# Altium schematic symbol library AliPadash.SchLib: 1117 symbols (part 4 of 6)
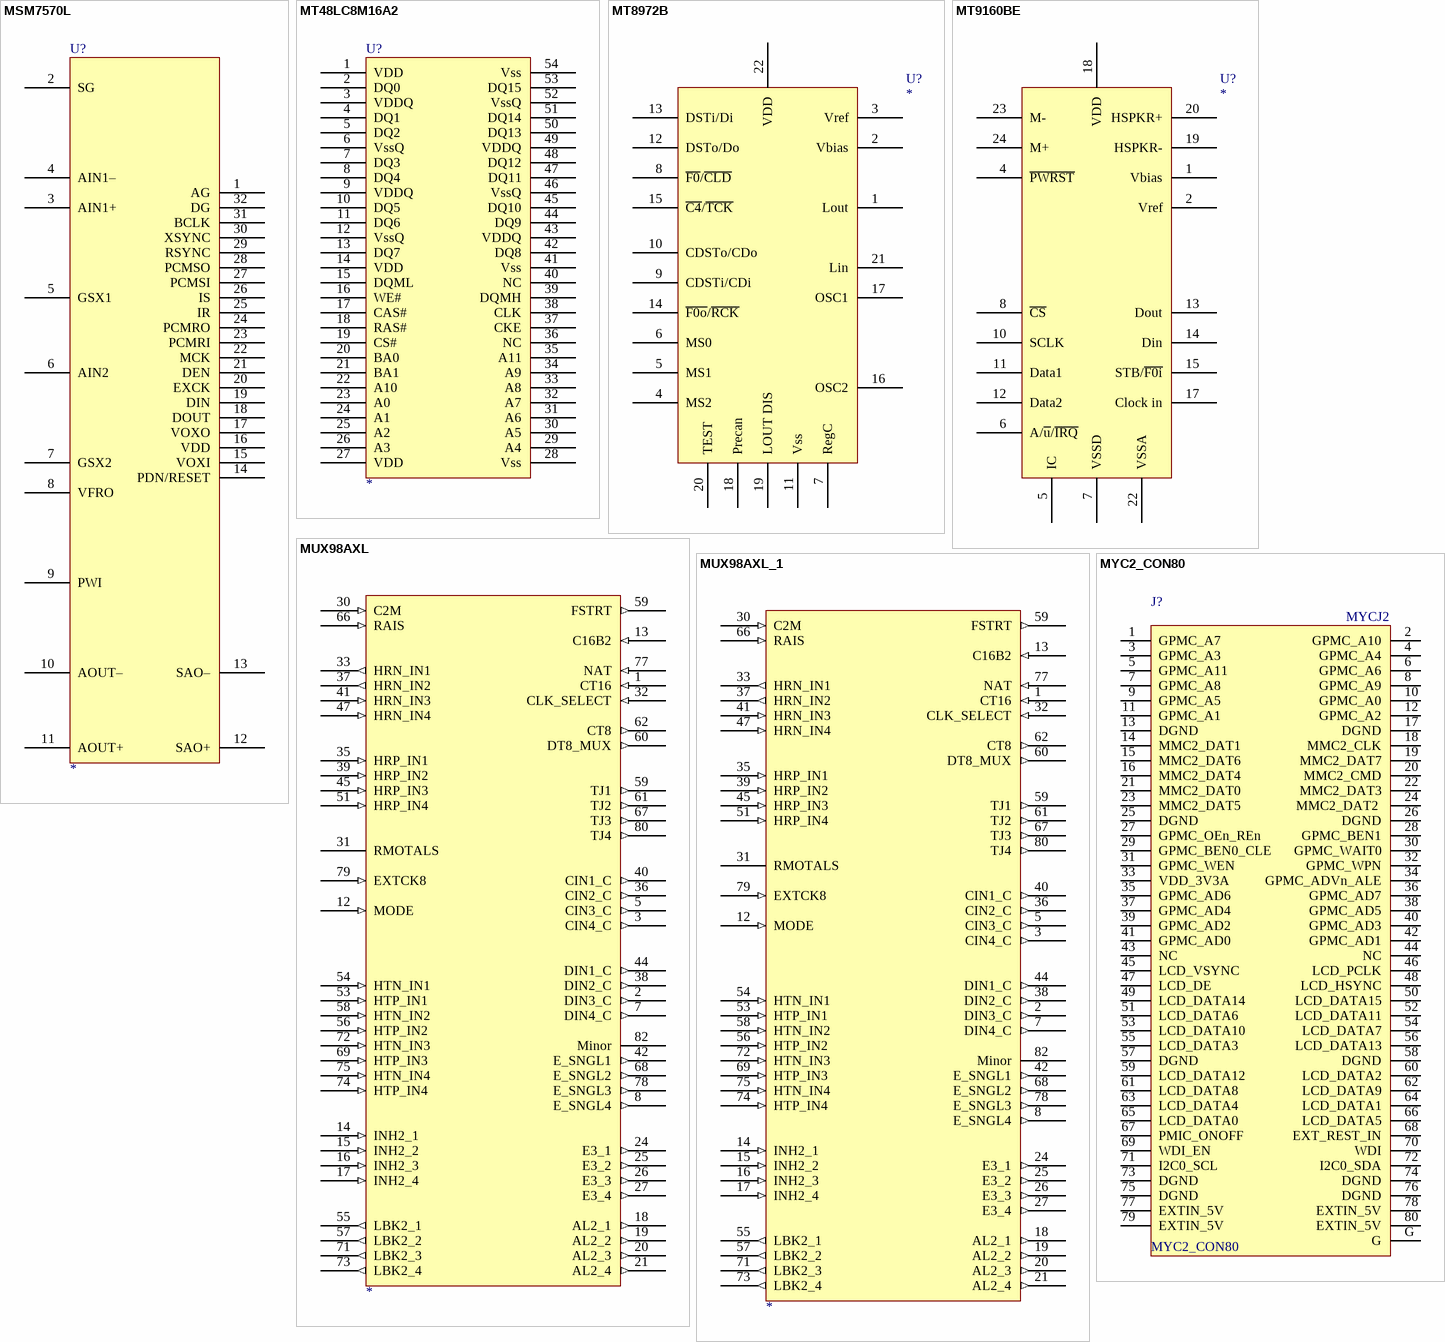
[diagram p86: symbols MSM7570L to MYC2_CON80]

## MT48LC8M16A2
designator U?
footprint TSOP54
pins: 1 VDD, 2 DQ0, 3 VDDQ, 4 DQ1, 5 DQ2, 6 VssQ, 7 DQ3, 8 DQ4, 9 VDDQ, 10 DQ5, 11 DQ6, 12 VssQ, 13 DQ7, 14 VDD, 15 DQML, 16 WE#, 17 CAS#, 18 RAS#, 19 CS#, 20 BA0, 21 BA1, 22 A10, 23 A0, 24 A1, 25 A2, 26 A3, 27 VDD, 28 Vss, 29 A4, 30 A5, 31 A6, 32 A7, 33 A8, 34 A9, 35 A11, 36 NC, 37 CKE, 38 CLK, 39 DQMH, 40 NC, 41 Vss, 42 DQ8, 43 VDDQ, 44 DQ9, 45 DQ10, 46 VssQ, 47 DQ11, 48 DQ12, 49 VDDQ, 50 DQ13, 51 DQ14, 52 VssQ, 53 DQ15, 54 Vss

## MT8972B
designator U?
footprint DIP22
pins: 1 Lout, 2 Vbias, 3 Vref, 4 MS2, 5 MS1, 6 MS0, 7 RegC, 8 ~{F0}/~{CLD}, 9 CDSTi/CDi, 10 CDSTo/CDo, 11 Vss (power), 12 DSTo/Do, 13 DSTi/Di, 14 ~{F0o}/~{RCK}, 15 ~{C4}/~{TCK}, 16 OSC2, 17 OSC1, 18 Precan, 19 LOUT DIS, 20 TEST, 21 Lin, 22 VDD (power)

## MT9160BE
designator U?
footprint DIP24
pins: 1 Vbias, 2 Vref, 4 ~{PWRST}, 5 IC (power), 6 A/~{u}/~{IRQ}, 7 VSSD (power), 8 ~{CS}, 10 SCLK, 11 Data1, 12 Data2, 13 Dout, 14 Din, 15 STB/~{F0i}, 17 Clock in, 18 VDD (power), 19 HSPKR-, 20 HSPKR+, 22 VSSA (power), 23 M-, 24 M+

## MUX98AXL
designator ?
pins: 1 CT16 (in), 2 DIN3_C (out), 3 CIN4_C (out), 5 CIN3_C (out), 6 GND (power) hidden to GND, 7 DIN4_C (out), 8 E_SNGL4 (out), 12 MODE (in), 13 C16B2 (in), 14 INH2_1 (in), 15 INH2_2 (in), 16 INH2_3 (in), 17 INH2_4 (in), 18 AL2_1 (out), 19 AL2_2 (out), 20 AL2_3 (out), 21 AL2_4 (out), 24 E3_1 (out), 25 E3_2 (out), 26 E3_3 (out), 27 E3_4 (out), 28 GND (power) hidden to GND, 30 C2M (in), 31 RMOTALS, 32 CLK_SELECT (in), 33 HRN_IN1 (out), 35 HRP_IN1 (in), 36 CIN2_C (out), 37 HRN_IN2 (out), 38 DIN2_C (out), 39 HRP_IN2 (in), 40 CIN1_C (out), 41 HRN_IN3 (in), 42 E_SNGL1 (out), 44 DIN1_C (out), 45 HRP_IN3 (in), 47 HRN_IN4 (in), 49 GND (power) hidden to GND, 51 HRP_IN4 (in), 53 HTP_IN1 (in), 54 HTN_IN1 (in), 55 LBK2_1 (out), 56 HTP_IN2 (in), 57 LBK2_2 (out), 58 HTN_IN2 (in), 59 TJ1 (out), 59 FSTRT (out), 60 DT8_MUX (out), 61 TJ2 (out), 62 CT8 (out), 66 RAIS (in), 67 TJ3 (out), 68 E_SNGL2 (out), 69 HTP_IN3 (in), 70 GND (power) hidden to GND, 71 LBK2_3 (out), 72 HTN_IN3 (in), 73 LBK2_4 (out), 74 HTP_IN4 (in), 75 HTN_IN4 (in), 77 NAT (in), 78 E_SNGL3 (out), 79 EXTCK8 (in), 80 TJ4 (out), 82 Minor

## MUX98AXL_1
designator ?
pins: 1 CT16 (in), 2 DIN3_C (out), 3 CIN4_C (out), 5 CIN3_C (out), 6 GND (power) hidden to GND, 7 DIN4_C (out), 8 E_SNGL4 (out), 12 MODE (in), 13 C16B2 (in), 14 INH2_1 (in), 15 INH2_2 (in), 16 INH2_3 (in), 17 INH2_4 (in), 18 AL2_1 (out), 19 AL2_2 (out), 20 AL2_3 (out), 21 AL2_4 (out), 24 E3_1 (out), 25 E3_2 (out), 26 E3_3 (out), 27 E3_4 (out), 28 GND (power) hidden to GND, 30 C2M (in), 31 RMOTALS, 32 CLK_SELECT (in), 33 HRN_IN1 (out), 35 HRP_IN1 (in), 36 CIN2_C (out), 37 HRN_IN2 (out), 38 DIN2_C (out), 39 HRP_IN2 (in), 40 CIN1_C (out), 41 HRN_IN3 (in), 42 E_SNGL1 (out), 44 DIN1_C (out), 45 HRP_IN3 (in), 47 HRN_IN4 (in), 49 GND (power) hidden to GND, 51 HRP_IN4 (in), 53 HTP_IN1 (in), 54 HTN_IN1 (in), 55 LBK2_1 (out), 56 HTP_IN2 (in), 57 LBK2_2 (out), 58 HTN_IN2 (in), 59 TJ1 (out), 59 FSTRT (out), 60 DT8_MUX (out), 61 TJ2 (out), 62 CT8 (out), 66 RAIS (in), 67 TJ3 (out), 68 E_SNGL2 (out), 69 HTP_IN3 (in), 70 GND (power) hidden to GND, 71 LBK2_3 (out), 72 HTN_IN3 (in), 73 LBK2_4 (out), 74 HTP_IN4 (in), 75 HTN_IN4 (in), 77 NAT (in), 78 E_SNGL3 (out), 79 EXTCK8 (in), 80 TJ4 (out), 82 Minor

## MYC2_CON80
designator J?
footprint BTB2X40F (SON, 80-Leads, Body 36/20x6/00mm, Pitch 0/80mm, IPC Medium Density)
pins: 1 GPMC_A7, 2 GPMC_A10, 3 GPMC_A3, 4 GPMC_A4, 5 GPMC_A11, 6 GPMC_A6, 7 GPMC_A8, 8 GPMC_A9, 9 GPMC_A5, 10 GPMC_A0, 11 GPMC_A1, 12 GPMC_A2, 13 DGND, 14 MMC2_DAT1, 15 MMC2_DAT6, 16 MMC2_DAT4, 17 DGND, 18 MMC2_CLK, 19 MMC2_DAT7, 20 MMC2_CMD, 21 MMC2_DAT0, 22 MMC2_DAT3, 23 MMC2_DAT5 , 24 MMC2_DAT2 , 25 DGND, 26 DGND, 27 GPMC_OEn_REn, 28 GPMC_BEN1, 29 GPMC_BEN0_CLE, 30 GPMC_WAIT0, 31 GPMC_WEN, 32 GPMC_WPN, 33 VDD_3V3A, 34 GPMC_ADVn_ALE, 35 GPMC_AD6, 36 GPMC_AD7, 37 GPMC_AD4, 38 GPMC_AD5, 39 GPMC_AD2, 40 GPMC_AD3, 41 GPMC_AD0, 42 GPMC_AD1, 43 NC, 44 NC, 45 LCD_VSYNC, 46 LCD_PCLK, 47 LCD_DE, 48 LCD_HSYNC, 49 LCD_DATA14, 50 LCD_DATA15, 51 LCD_DATA6, 52 LCD_DATA11, 53 LCD_DATA10, 54 LCD_DATA7, 55 LCD_DATA3, 56 LCD_DATA13, 57 DGND, 58 DGND, 59 LCD_DATA12, 60 LCD_DATA2, 61 LCD_DATA8, 62 LCD_DATA9, 63 LCD_DATA4, 64 LCD_DATA1, 65 LCD_DATA0, 66 LCD_DATA5, 67 PMIC_ONOFF, 68 EXT_REST_IN, 69 WDI_EN, 70 WDI, 71 I2C0_SCL, 72 I2C0_SDA, 73 DGND, 74 DGND, 75 DGND, 76  DGND, 77 EXTIN_5V, 78 EXTIN_5V, 79 EXTIN_5V, 80 EXTIN_5V, G
text: MYCJ2

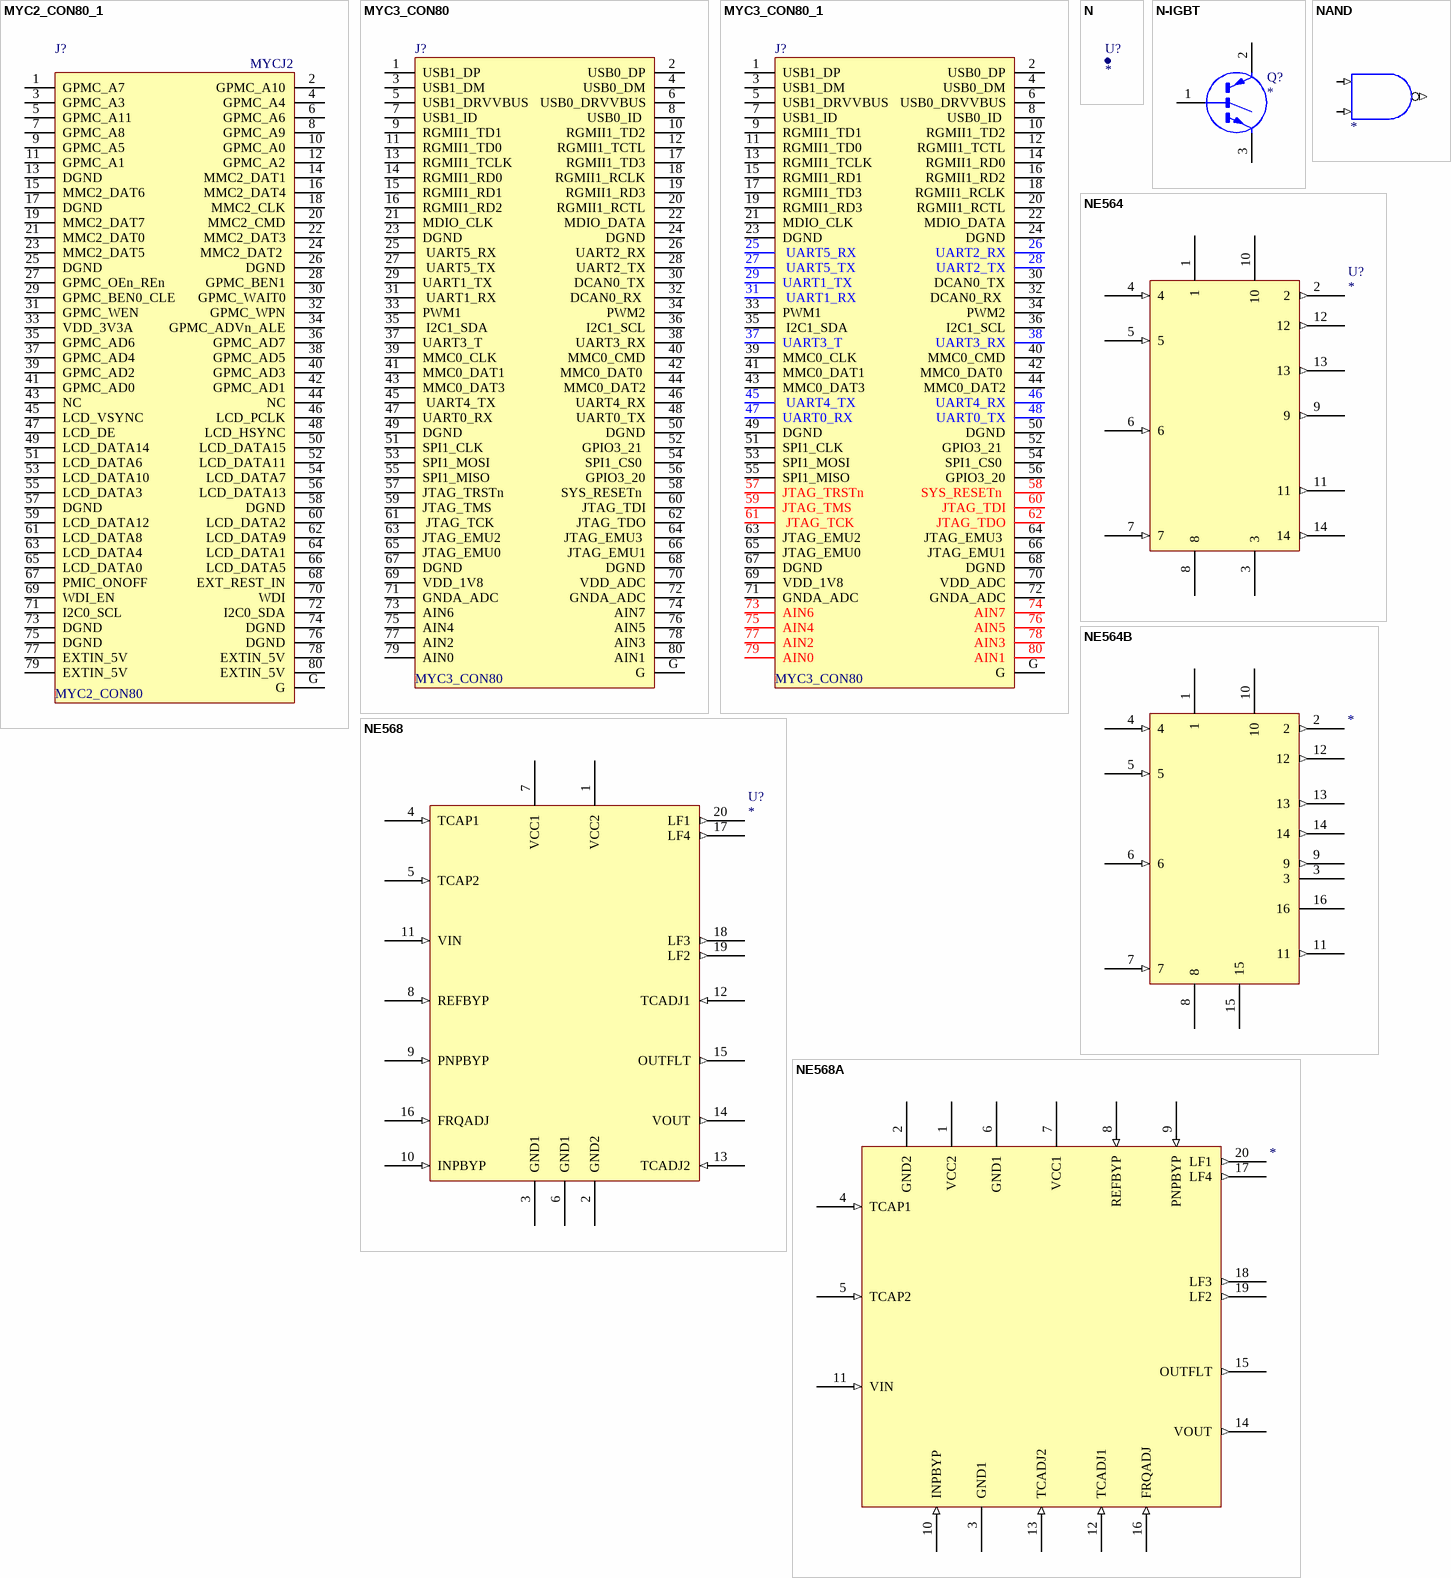
[diagram p44: symbols MYC2_CON80_1 to NE568A]

## MYC2_CON80_1
designator J?, comment MYC2_CON80
footprint BTB2X40F (SON, 80-Leads, Body 36/20x6/00mm, Pitch 0/80mm, IPC Medium Density)
pins: 1 GPMC_A7, 2 GPMC_A10, 3 GPMC_A3, 4 GPMC_A4, 5 GPMC_A11, 6 GPMC_A6, 7 GPMC_A8, 8 GPMC_A9, 9 GPMC_A5, 10 GPMC_A0, 11 GPMC_A1, 12 GPMC_A2, 13 DGND, 14 MMC2_DAT1, 15 MMC2_DAT6, 16 MMC2_DAT4, 17 DGND, 18 MMC2_CLK, 19 MMC2_DAT7, 20 MMC2_CMD, 21 MMC2_DAT0, 22 MMC2_DAT3, 23 MMC2_DAT5 , 24 MMC2_DAT2 , 25 DGND, 26 DGND, 27 GPMC_OEn_REn, 28 GPMC_BEN1, 29 GPMC_BEN0_CLE, 30 GPMC_WAIT0, 31 GPMC_WEN, 32 GPMC_WPN, 33 VDD_3V3A, 34 GPMC_ADVn_ALE, 35 GPMC_AD6, 36 GPMC_AD7, 37 GPMC_AD4, 38 GPMC_AD5, 39 GPMC_AD2, 40 GPMC_AD3, 41 GPMC_AD0, 42 GPMC_AD1, 43 NC, 44 NC, 45 LCD_VSYNC, 46 LCD_PCLK, 47 LCD_DE, 48 LCD_HSYNC, 49 LCD_DATA14, 50 LCD_DATA15, 51 LCD_DATA6, 52 LCD_DATA11, 53 LCD_DATA10, 54 LCD_DATA7, 55 LCD_DATA3, 56 LCD_DATA13, 57 DGND, 58 DGND, 59 LCD_DATA12, 60 LCD_DATA2, 61 LCD_DATA8, 62 LCD_DATA9, 63 LCD_DATA4, 64 LCD_DATA1, 65 LCD_DATA0, 66 LCD_DATA5, 67 PMIC_ONOFF, 68 EXT_REST_IN, 69 WDI_EN, 70 WDI, 71 I2C0_SCL, 72 I2C0_SDA, 73 DGND, 74 DGND, 75 DGND, 76  DGND, 77 EXTIN_5V, 78 EXTIN_5V, 79 EXTIN_5V, 80 EXTIN_5V, G
text: MYCJ2

## MYC3_CON80
designator J?
footprint BTB2X40 (SON, 80-Leads, Body 36/20x6/00mm, Pitch 0/80mm, IPC Medium Density)
footprint BTB2X40F (SON, 80-Leads, Body 36/20x6/00mm, Pitch 0/80mm, IPC Medium Density)
pins: 1 USB1_DP, 2 USB0_DP, 3 USB1_DM, 4 USB0_DM, 5 USB1_DRVVBUS, 6 USB0_DRVVBUS, 7 USB1_ID, 8 USB0_ID , 9 RGMII1_TD1, 10 RGMII1_TD2, 11 RGMII1_TD0, 12 RGMII1_TCTL, 13 RGMII1_TCLK, 14 RGMII1_RD0, 15 RGMII1_RD1, 16 RGMII1_RD2, 17 RGMII1_TD3, 18 RGMII1_RCLK, 19 RGMII1_RD3, 20 RGMII1_RCTL, 21 MDIO_CLK, 22 MDIO_DATA, 23 DGND, 24 DGND, 25  UART5_RX, 26 UART2_RX, 27  UART5_TX, 28 UART2_TX, 29 UART1_TX, 30 DCAN0_TX, 31  UART1_RX, 32 DCAN0_RX , 33 PWM1, 34 PWM2, 35  I2C1_SDA, 36 I2C1_SCL, 37 UART3_T, 38 UART3_RX, 39 MMC0_CLK, 40 MMC0_CMD, 41 MMC0_DAT1, 42 MMC0_DAT0 , 43 MMC0_DAT3, 44 MMC0_DAT2, 45  UART4_TX, 46 UART4_RX, 47 UART0_RX, 48 UART0_TX, 49 DGND, 50 DGND, 51 SPI1_CLK, 52 GPIO3_21 , 53 SPI1_MOSI, 54 SPI1_CS0 , 55 SPI1_MISO, 56 GPIO3_20, 57 JTAG_TRSTn, 58 SYS_RESETn , 59 JTAG_TMS, 60 JTAG_TDI, 61  JTAG_TCK, 62 JTAG_TDO, 63 JTAG_EMU2, 64 JTAG_EMU3 , 65 JTAG_EMU0, 66 JTAG_EMU1, 67 DGND, 68 DGND, 69 VDD_1V8, 70 VDD_ADC, 71 GNDA_ADC, 72 GNDA_ADC, 73 AIN6, 74 AIN7, 75 AIN4, 76 AIN5, 77 AIN2, 78 AIN3, 79 AIN0, 80 AIN1, G

## MYC3_CON80_1
designator J?, comment MYC3_CON80
footprint BTB2X40 (SON, 80-Leads, Body 36/20x6/00mm, Pitch 0/80mm, IPC Medium Density)
footprint BTB2X40F_1 (SON, 80-Leads, Body 36/20x6/00mm, Pitch 0/80mm, IPC Medium Density)
pins: 1 USB1_DP, 2 USB0_DP, 3 USB1_DM, 4 USB0_DM, 5 USB1_DRVVBUS, 6 USB0_DRVVBUS, 7 USB1_ID, 8 USB0_ID , 9 RGMII1_TD1, 10 RGMII1_TD2, 11 RGMII1_TD0, 12 RGMII1_TCTL, 13 RGMII1_TCLK, 14 RGMII1_RD0, 15 RGMII1_RD1, 16 RGMII1_RD2, 17 RGMII1_TD3, 18 RGMII1_RCLK, 19 RGMII1_RD3, 20 RGMII1_RCTL, 21 MDIO_CLK, 22 MDIO_DATA, 23 DGND, 24 DGND, 25  UART5_RX, 26 UART2_RX, 27  UART5_TX, 28 UART2_TX, 29 UART1_TX, 30 DCAN0_TX, 31  UART1_RX, 32 DCAN0_RX , 33 PWM1, 34 PWM2, 35  I2C1_SDA, 36 I2C1_SCL, 37 UART3_T, 38 UART3_RX, 39 MMC0_CLK, 40 MMC0_CMD, 41 MMC0_DAT1, 42 MMC0_DAT0 , 43 MMC0_DAT3, 44 MMC0_DAT2, 45  UART4_TX, 46 UART4_RX, 47 UART0_RX, 48 UART0_TX, 49 DGND, 50 DGND, 51 SPI1_CLK, 52 GPIO3_21 , 53 SPI1_MOSI, 54 SPI1_CS0 , 55 SPI1_MISO, 56 GPIO3_20, 57 JTAG_TRSTn, 58 SYS_RESETn , 59 JTAG_TMS, 60 JTAG_TDI, 61  JTAG_TCK, 62 JTAG_TDO, 63 JTAG_EMU2, 64 JTAG_EMU3 , 65 JTAG_EMU0, 66 JTAG_EMU1, 67 DGND, 68 DGND, 69 VDD_1V8, 70 VDD_ADC, 71 GNDA_ADC, 72 GNDA_ADC, 73 AIN6, 74 AIN7, 75 AIN4, 76 AIN5, 77 AIN2, 78 AIN3, 79 AIN0, 80 AIN1, G

## N
designator U?

## N-IGBT
designator Q?
footprint SMD-23
footprint TO-92
footprint TO-18B
footprint SMD-24
pins: 1 B, 2 E, 3 E

## NAND
designator ?
pins: 1 (in), 2 (in), 3 (out)

## NE564
designator U?
pins: 1, 2 (out), 3, 4 (in), 5 (in), 6 (in), 7 (in), 8, 9 (out), 10, 11 (out), 12 (out), 13 (out), 14 (out)

## NE564B
designator ?
pins: 1, 2 (out), 3, 4 (in), 5 (in), 6 (in), 7 (in), 8, 9 (out), 10, 11 (out), 12 (out), 13 (out), 14 (out), 15, 16

## NE568
designator U?
pins: 1 VCC2, 2 GND2, 3 GND1, 4 TCAP1 (in), 5 TCAP2 (in), 6 GND1, 7 VCC1, 8 REFBYP (in), 9 PNPBYP (in), 10 INPBYP (in), 11 VIN (in), 12 TCADJ1 (in), 13 TCADJ2 (in), 14 VOUT (out), 15 OUTFLT (out), 16 FRQADJ (in), 17 LF4 (out), 18 LF3 (out), 19 LF2 (out), 20 LF1 (out)

## NE568A
designator ?
pins: 1 VCC2, 2 GND2, 3 GND1, 4 TCAP1 (in), 5 TCAP2 (in), 6 GND1, 7 VCC1, 8 REFBYP (in), 9 PNPBYP (in), 10 INPBYP (in), 11 VIN (in), 12 TCADJ1 (in), 13 TCADJ2 (in), 14 VOUT (out), 15 OUTFLT (out), 16 FRQADJ (in), 17 LF4 (out), 18 LF3 (out), 19 LF2 (out), 20 LF1 (out)

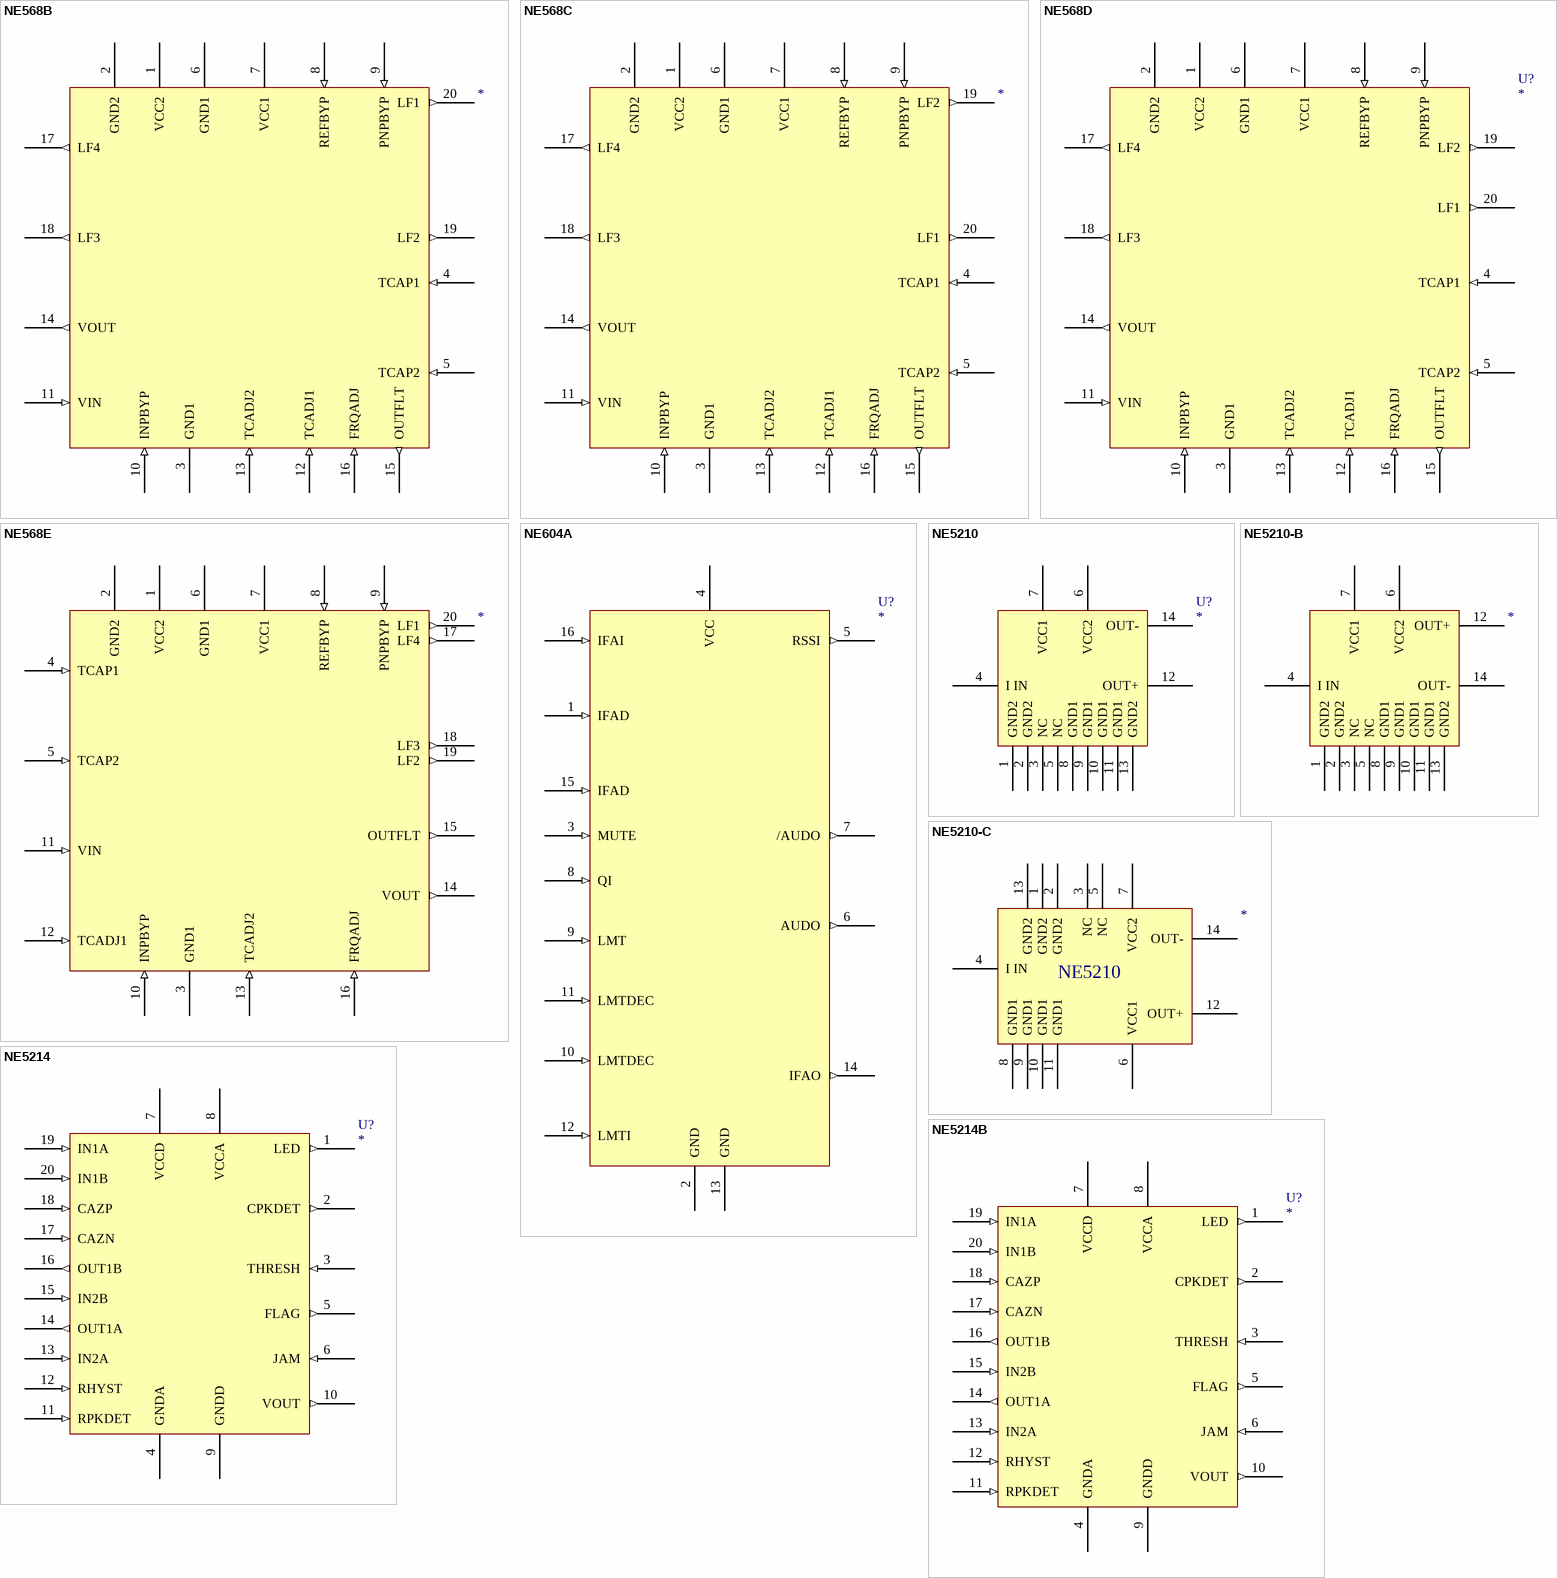
[diagram p45: symbols NE568B to NE5214B]

## NE568B
designator ?
pins: 1 VCC2, 2 GND2, 3 GND1, 4 TCAP1 (in), 5 TCAP2 (in), 6 GND1, 7 VCC1, 8 REFBYP (in), 9 PNPBYP (in), 10 INPBYP (in), 11 VIN (in), 12 TCADJ1 (in), 13 TCADJ2 (in), 14 VOUT (out), 15 OUTFLT (out), 16 FRQADJ (in), 17 LF4 (out), 18 LF3 (out), 19 LF2 (out), 20 LF1 (out)

## NE568C
designator ?
pins: 1 VCC2, 2 GND2, 3 GND1, 4 TCAP1 (in), 5 TCAP2 (in), 6 GND1, 7 VCC1, 8 REFBYP (in), 9 PNPBYP (in), 10 INPBYP (in), 11 VIN (in), 12 TCADJ1 (in), 13 TCADJ2 (in), 14 VOUT (out), 15 OUTFLT (out), 16 FRQADJ (in), 17 LF4 (out), 18 LF3 (out), 19 LF2 (out), 20 LF1 (out)

## NE568D
designator U?
footprint DIP20
pins: 1 VCC2, 2 GND2, 3 GND1, 4 TCAP1 (in), 5 TCAP2 (in), 6 GND1, 7 VCC1, 8 REFBYP (in), 9 PNPBYP (in), 10 INPBYP (in), 11 VIN (in), 12 TCADJ1 (in), 13 TCADJ2 (in), 14 VOUT (out), 15 OUTFLT (out), 16 FRQADJ (in), 17 LF4 (out), 18 LF3 (out), 19 LF2 (out), 20 LF1 (out)

## NE568E
designator ?
pins: 1 VCC2, 2 GND2, 3 GND1, 4 TCAP1 (in), 5 TCAP2 (in), 6 GND1, 7 VCC1, 8 REFBYP (in), 9 PNPBYP (in), 10 INPBYP (in), 11 VIN (in), 12 TCADJ1 (in), 13 TCADJ2 (in), 14 VOUT (out), 15 OUTFLT (out), 16 FRQADJ (in), 17 LF4 (out), 18 LF3 (out), 19 LF2 (out), 20 LF1 (out)

## NE604A
designator U?
pins: 1 IFAD (in), 2 GND, 3 MUTE (in), 4 VCC, 5 RSSI (out), 6 AUDO (out), 7 /AUDO (out), 8 QI (in), 9 LMT (in), 10 LMTDEC (in), 11 LMTDEC (in), 12 LMTI (in), 13 GND, 14 IFAO (out), 15 IFAD (in), 16 IFAI (in)

## NE5210
designator U?
pins: 1 GND2, 2 GND2, 3 NC, 4 I IN, 5 NC, 6 VCC2, 7 VCC1, 8 GND1, 9 GND1, 10 GND1, 11 GND1, 12 OUT+, 13 GND2, 14 OUT-

## NE5210-B
designator ?
pins: 1 GND2, 2 GND2, 3 NC, 4 I IN, 5 NC, 6 VCC2, 7 VCC1, 8 GND1, 9 GND1, 10 GND1, 11 GND1, 12 OUT+, 13 GND2, 14 OUT-

## NE5210-C
designator ?
pins: 1 GND2, 2 GND2, 3 NC, 4 I IN, 5 NC, 6 VCC1, 7 VCC2, 8 GND1, 9 GND1, 10 GND1, 11 GND1, 12 OUT+, 13 GND2, 14 OUT-
text: NE5210

## NE5214
designator U?
pins: 1 LED (out), 2 CPKDET (out), 3 THRESH (in), 4 GNDA, 5 FLAG (out), 6 JAM (in), 7 VCCD, 8 VCCA, 9 GNDD, 10 VOUT (out), 11 RPKDET (in), 12 RHYST (in), 13 IN2A (in), 14 OUT1A (out), 15 IN2B (in), 16 OUT1B (out), 17 CAZN (in), 18 CAZP (in), 19 IN1A (in), 20 IN1B (in)

## NE5214B
designator U?
pins: 1 LED (out), 2 CPKDET (out), 3 THRESH (in), 4 GNDA, 5 FLAG (out), 6 JAM (in), 7 VCCD, 8 VCCA, 9 GNDD, 10 VOUT (out), 11 RPKDET (in), 12 RHYST (in), 13 IN2A (in), 14 OUT1A (out), 15 IN2B (in), 16 OUT1B (out), 17 CAZN (in), 18 CAZP (in), 19 IN1A (in), 20 IN1B (in)

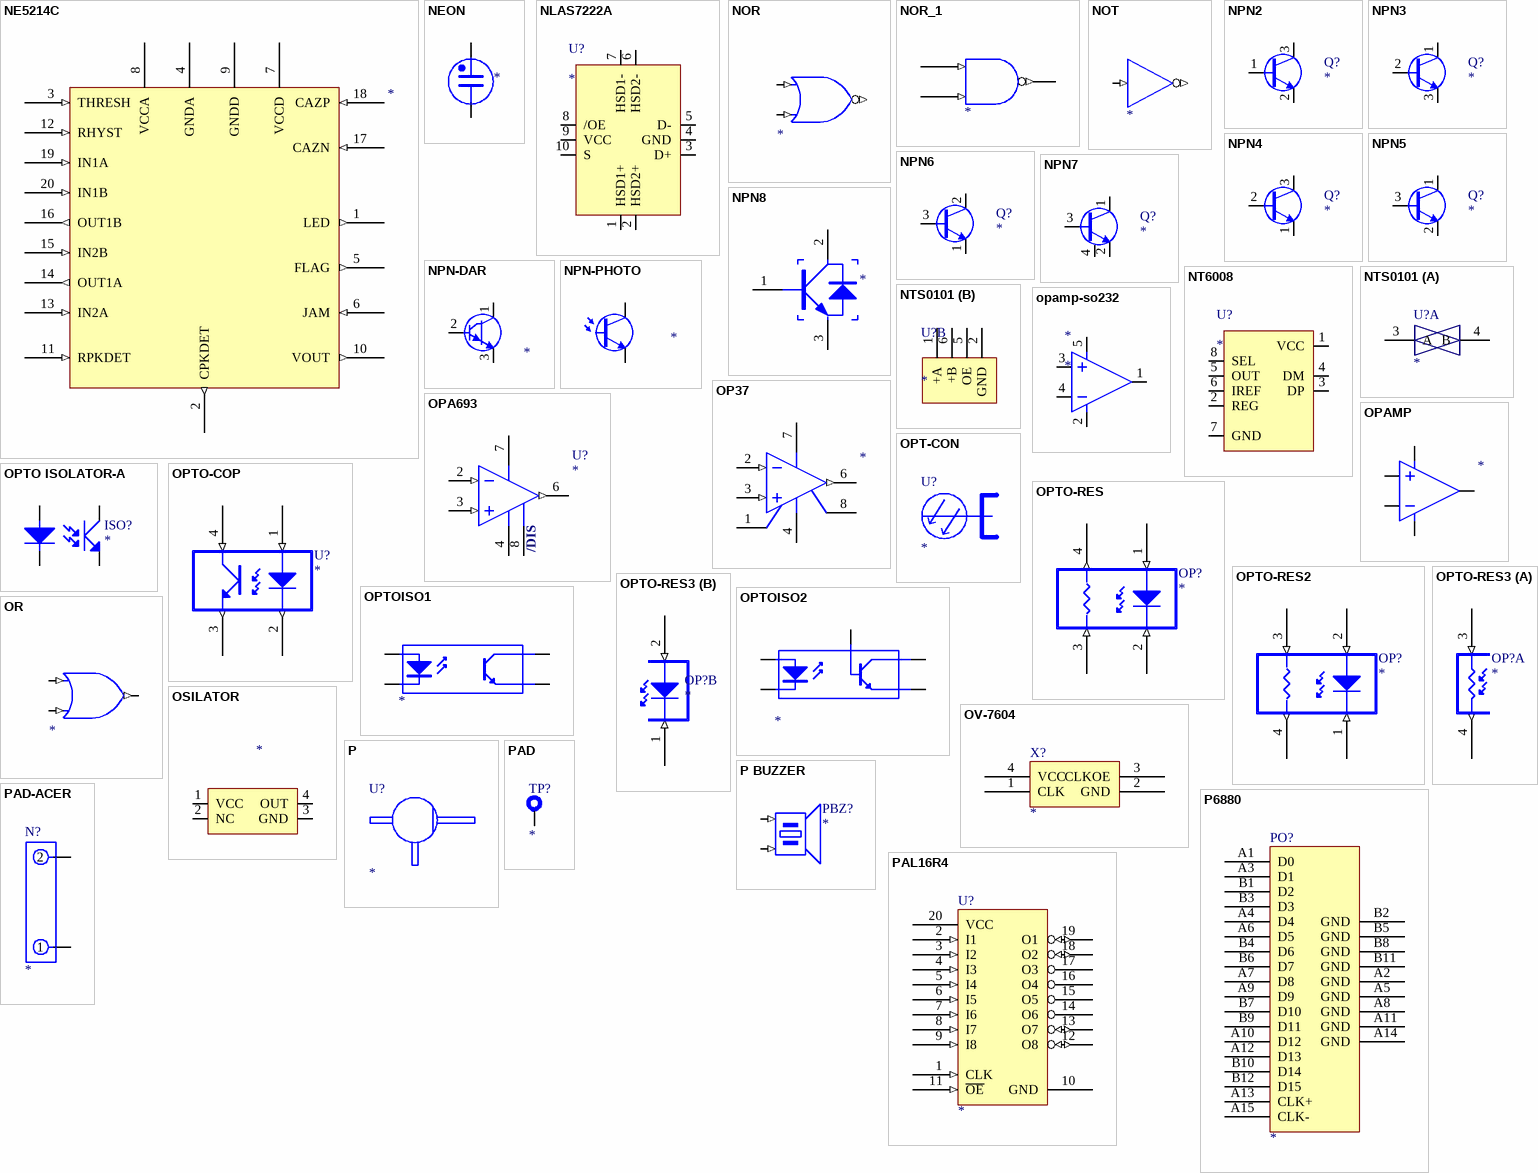
[diagram p46: symbols NE5214C to PAL16R4]

## NE5214C
designator ?
pins: 1 LED (out), 2 CPKDET (out), 3 THRESH (in), 4 GNDA, 5 FLAG (out), 6 JAM (in), 7 VCCD, 8 VCCA, 9 GNDD, 10 VOUT (out), 11 RPKDET (in), 12 RHYST (in), 13 IN2A (in), 14 OUT1A (out), 15 IN2B (in), 16 OUT1B (out), 17 CAZN (in), 18 CAZP (in), 19 IN1A (in), 20 IN1B (in)

## NEON
designator ?
pins: 1, 2

## NLAS7222A
designator U?
footprint WQFN10
pins: 1 HSD1+, 2 HSD2+, 3 D+, 4 GND, 5 D-, 6 HSD2-, 7 HSD1-, 8 /OE, 9 VCC, 10 S

## NOR
designator ?
pins: 1 (in), 2 (in), 3 (out)

## NOR_1
designator ?
pins: ?1 I0 (in), ?2 I1 (in), ?3 O (out)

## NOT
designator ?
pins: 1 (in), 2 (out)

## NPN2
designator Q?
footprint SMD-23
footprint TO-92
footprint TO-220
pins: 1 B, 2 E, 3 C

## NPN3
designator Q?
footprint SMD-23
footprint TO-92
footprint TO-220
pins: 1 C, 2 B, 3 E

## NPN4
designator Q?
footprint SMD-23
pins: 1 E, 2 B, 3 C

## NPN5
designator Q?
pins: 1 C, 2 E, 3 B

## NPN6
designator Q?
pins: 1 E, 2 C, 3 B

## NPN7
designator Q?
pins: 1 C, 2 E, 3 B, 4 E

## NPN8
designator ?
pins: 1 B, 2 C, 3 E

## NPN-DAR
designator ?
pins: 1 C, 2 B, 3 E

## NPN-PHOTO
designator ?
pins: C, E

## NT6008
designator U?
pins: 1 VCC, 2 REG, 3 DP, 4 DM, 5 OUT, 6 IREF, 7 GND, 8 SEL

## NTS0101
designator U?
footprint SOT363
part A pins: 3 A, 4 B
part B pins: 1 +A, 2 GND, 5 OE, 6 +B

## OP37
designator ?
pins: 1 TRIM, 2 -IN (in), 3 +IN (in), 4 V- (power), 6 OUT (out), 7 V+ (power), 8 TRIM

## OPA693
designator U?
pins: 2 -IN (in), 3 +IN (in), 4 V- (power), 6 OUT (out), 7 V+ (power), 8 /DIS

## OPAMP
designator ?
pins: 1, 2, 3, 4, 5

## opamp-so232
designator *
pins: 1, 2, 3 2, 4, 5

## OPT-CON
designator U?

## OPTO ISOLATOR-A
designator ISO?
pins: ANODE, CATHODE, COLLECTOR, EMITTER

## OPTO-COP
designator U?
pins: 1 A (in), 2 C (out), 3 E (out), 4 CL (in)

## OPTO-RES
designator OP?
footprint OPR
pins: 1 A (in), 2 C (in), 3 E (in), 4 CL (out)

## OPTO-RES2
designator OP?
footprint OPR
pins: 1 A (in), 2 C (in), 3 E (in), 4 CL (out)

## OPTO-RES3
designator OP?
footprint OPR
part A pins: 3 E (in), 4 CL (out)
part B pins: 1 A (in), 2 C (in)

## OPTOISO1
designator ?
pins: A, C, E, K

## OPTOISO2
designator ?
pins: A, B, C, E, K

## OR
designator ?
pins: 1 (in), 2 (in), 3 (out)

## OSILATOR
designator ?
footprint OSILATOR
pins: 1 VCC, 2 NC, 3 GND, 4 OUT

## OV-7604
designator X?
footprint OV7604
pins: 1 CLK, 2 GND, 3 CLKOE, 4 VCC

## P
designator U?

## P6880
designator PO?
PROB FOR P6860 AND P6880 LOGIC ANALYZER
footprint P6860
pins: A1 D0, A2 GND, A3 D1, A4 D4, A5 GND, A6 D5, A7 D8, A8 GND, A9 D9, A10 D12, A11 GND, A12 D13, A13 CLK+, A14 GND, A15 CLK-, B1 D2, B2 GND, B3 D3, B4 D6, B5 GND, B6 D7, B7 D10, B8 GND, B9 D11, B10 D14, B11 GND, B12 D15

## P BUZZER
designator PBZ?
footprint BUZER2
pins: 1 (in), 2 (in)

## PAD
designator TP?
footprint TP1
pins: 1

## PAD-ACER
designator N?
pins: 1, 2

## PAL16R4
designator U?
footprint DIP20
pins: 1 CLK (in), 2 I1 (in), 3 I2 (in), 4 I3 (in), 5 I4 (in), 6 I5 (in), 7 I6 (in), 8 I7 (in), 9 I8 (in), 10 GND (power), 11 ~{OE} (in), 12 O8 (io), 13 O7 (io), 14 O6 (hiz), 15 O5 (hiz), 16 O4 (hiz), 17 O3 (hiz), 18 O2 (io), 19 O1 (io), 20 VCC (power)

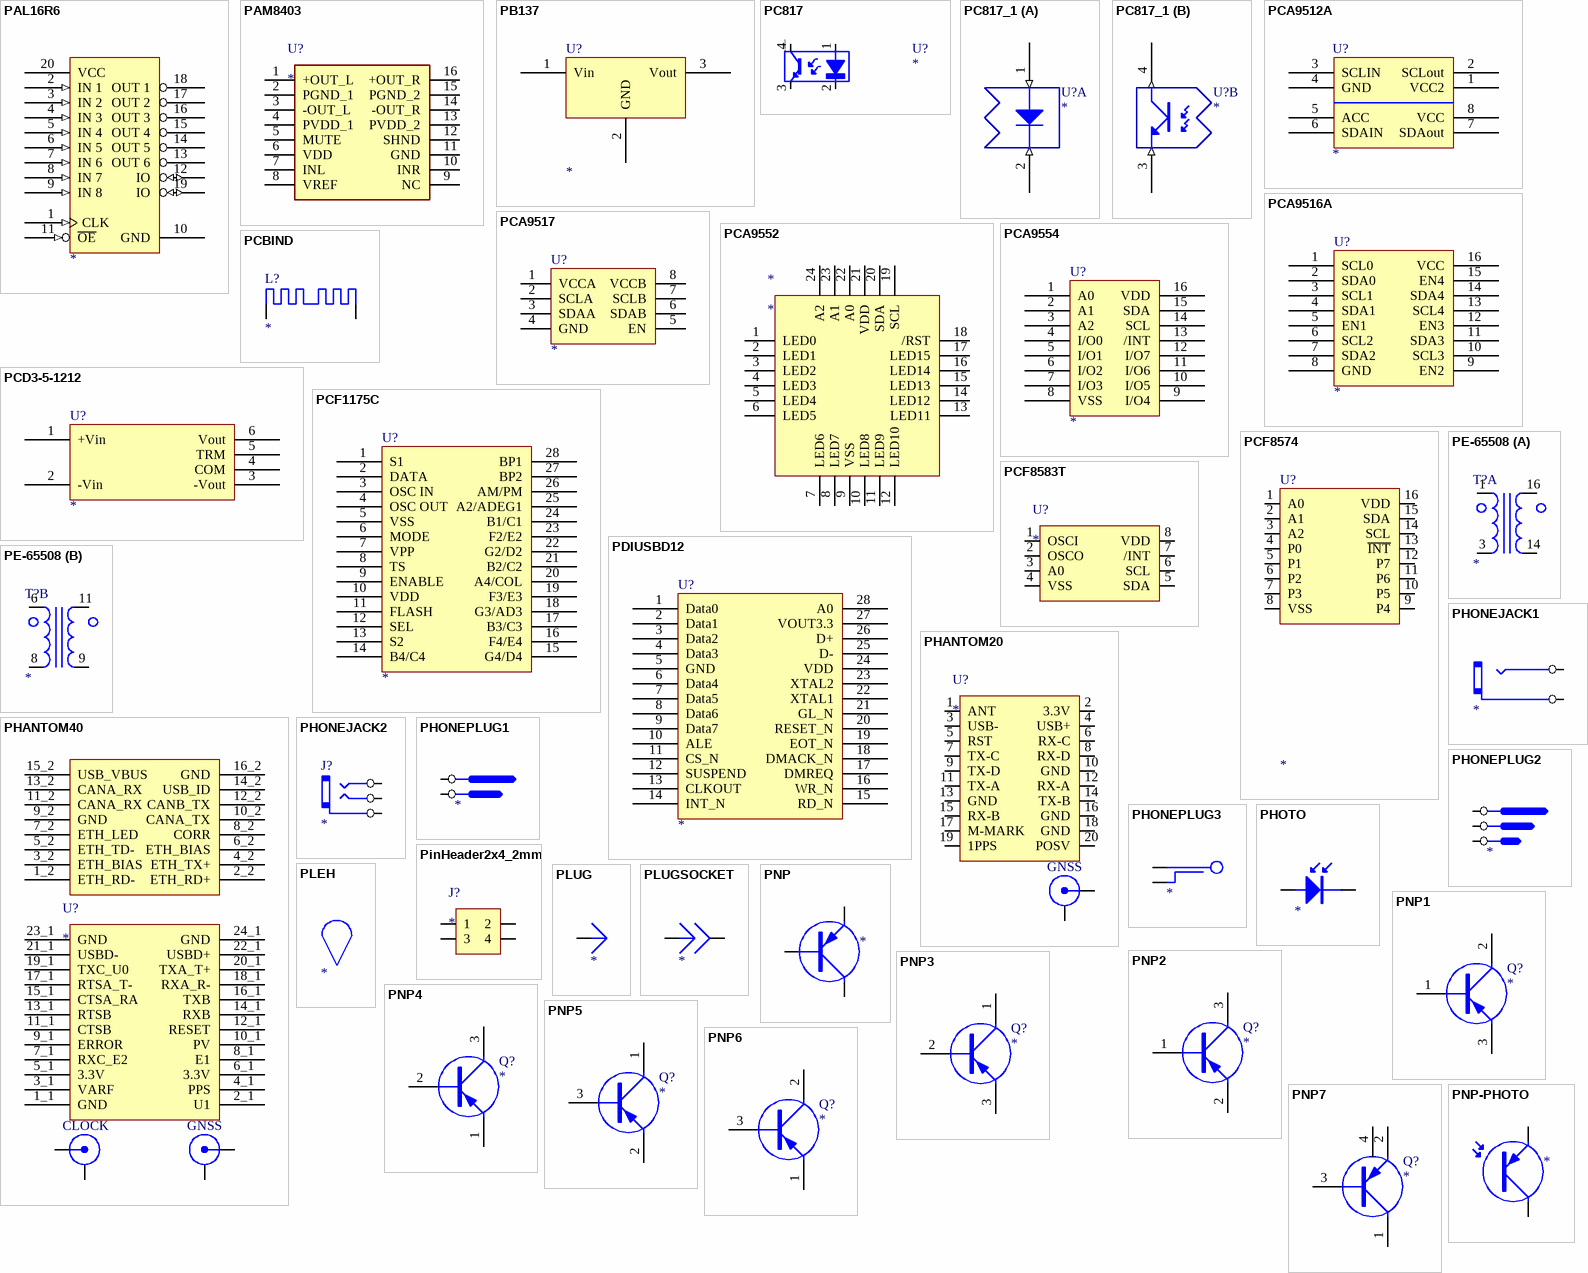
[diagram p47: symbols PAL16R6 to PNP-PHOTO]

## PAL16R6
designator ?
pins: 1 CLK (in), 2 IN 1 (in), 3 IN 2 (in), 4 IN 3 (in), 5 IN 4 (in), 6 IN 5 (in), 7 IN 6 (in), 8 IN 7 (in), 9 IN 8 (in), 10 GND (power), 11 ~{OE} (in), 12 IO (io), 13 OUT 6 (hiz), 14 OUT 5 (hiz), 15 OUT 4 (hiz), 16 OUT 3 (hiz), 17 OUT 2 (hiz), 18 OUT 1 (hiz), 19 IO (io), 20 VCC (power)

## PAM8403
designator U?
footprint SO-16
pins: 1 +OUT_L, 2 PGND_1, 3 -OUT_L, 4 PVDD_1, 5 MUTE, 6 VDD, 7 INL, 8 VREF, 9 NC, 10 INR, 11 GND, 12 SHND, 13 PVDD_2, 14 -OUT_R, 15 PGND_2, 16 +OUT_R

## PB137
designator U?
footprint TO-220
pins: 1 Vin, 2 GND, 3 Vout

## PC817
designator U?
footprint DIP4
pins: 1 A, 2 C, 3 E, 4 CL
text: @DesignPCB

## PC817_1
designator U?
footprint DIP4
part A pins: 1 A (in), 2 C (in)
part B pins: 3 E (in), 4 CL (out)

## PCA9512A
designator U?
footprint SO-8
pins: 1 VCC2, 2 SCLout, 3 SCLIN, 4 GND, 5 ACC, 6 SDAIN, 7 SDAout, 8 VCC

## PCA9516A
designator U?
footprint SO-16
pins: 1 SCL0, 2 SDA0, 3 SCL1, 4 SDA1, 5 EN1, 6 SCL2, 7 SDA2, 8 GND, 9 EN2, 10 SCL3, 11 SDA3, 12 EN3, 13 SCL4, 14 SDA4, 15 EN4, 16 VCC

## PCA9517
designator U?
footprint SO-8
pins: 1 VCCA, 2 SCLA, 3 SDAA, 4 GND, 5 EN, 6 SDAB, 7 SCLB, 8 VCCB

## PCA9552
designator *
footprint HVQFN24 (PQFN, 24-Leads, Body 4.00x4.00mm, Pitch 0.50mm, Thermal Pad 2.10x2.10mm, IPC Medium Density)
pins: 1 LED0, 2 LED1, 3 LED2, 4 LED3, 5 LED4, 6 LED5, 7 LED6, 8 LED7, 9 VSS, 10 LED8, 11 LED9, 12 LED10, 13 LED11, 14 LED12, 15 LED13, 16 LED14, 17 LED15, 18 /RST, 19 SCL, 20 SDA, 21 VDD, 22 A0, 23 A1, 24 A2

## PCA9554
designator U?
footprint TSSOP16
pins: 1 A0, 2 A1, 3 A2, 4 I/O0, 5 I/O1, 6 I/O2, 7 I/O3, 8 VSS, 9 I/O4, 10 I/O5, 11 I/O6, 12 I/O7, 13 /INT, 14 SCL, 15 SDA, 16 VDD

## PCBIND
designator L?
footprint PCBIND1
footprint PCBIND2
footprint PCBIND3
footprint PCBIND3
pins: 1 SDO, 2 SDO

## PCD3-5-1212
designator U?
footprint PCD3
pins: 1 +Vin, 2 -Vin, 3 -Vout, 4 COM, 5 TRM, 6 Vout

## PCF1175C
designator U?
footprint SOI-28
pins: 1 S1, 2 DATA, 3 OSC IN, 4 OSC OUT, 5 VSS, 6 MODE, 7 VPP, 8 TS, 9 ENABLE, 10 VDD, 11 FLASH, 12 SEL, 13 S2, 14 B4/C4, 15 G4/D4, 16 F4/E4, 17 B3/C3, 18 G3/AD3, 19 F3/E3, 20 A4/COL, 21 B2/C2, 22 G2/D2, 23 F2/E2, 24 B1/C1, 25 A2/ADEG1, 26 AM/PM, 27 BP2, 28 BP1

## PCF8574
designator U?
footprint SOT162
pins: 1 A0, 2 A1, 3 A2, 4 P0, 5 P1, 6 P2, 7 P3, 8 VSS, 9 P4, 10 P5, 11 P6, 12 P7, 13 ~{INT}, 14 SCL, 15 SDA, 16 VDD

## PCF8583T
designator U?
footprint SO-8-B2
pins: 1 OSCI, 2 OSCO, 3 A0, 4 VSS, 5 SDA, 6 SCL, 7 /INT, 8 VDD

## PDIUSBD12
designator U?
footprint TSSOP28
pins: 1 Data0, 2 Data1, 3 Data2, 4 Data3, 5 GND, 6 Data4, 7 Data5, 8 Data6, 9 Data7, 10 ALE, 11 CS_N, 12 SUSPEND, 13 CLKOUT, 14 INT_N, 15 RD_N, 16 WR_N, 17 DMREQ, 18 DMACK_N, 19 EOT_N, 20 RESET_N, 21 GL_N, 22 XTAL1, 23 XTAL2, 24 VDD, 25 D-, 26 D+, 27 VOUT3.3, 28 A0

## PE-65508
designator T?
footprint 16-PE-655XX
part A pins: 1, 3, 14, 16
part B pins: 6, 8, 9, 11

## PHANTOM20
designator U?
footprint PHANTOM20
pins: 1 ANT, 2 3.3V, 3 USB-, 4 USB+, 5 RST, 6 RX-C, 7 TX-C, 8 RX-D, 9 TX-D, 10 GND, 11 TX-A, 12 RX-A, 13 GND, 14 TX-B, 15 RX-B, 16 GND, 17 M-MARK, 18 GND, 19 1PPS, 20 POSV, ANT, G3
text: GNSS

## PHANTOM40
designator U?
footprint PHANTOM40C
pins: 1_1 GND, 1_2 ETH_RD-, 2_1 U1, 2_2 ETH_RD+, 3_1 VARF, 3_2 ETH_BIAS, 4_1 PPS, 4_2 ETH_TX+, 5_1 3.3V, 5_2 ETH_TD-, 6_1 3.3V, 6_2 ETH_BIAS, 7_1 RXC_E2, 7_2 ETH_LED, 8_1 E1, 8_2 CORR, 9_1 ERROR, 9_2 GND, 10_1 PV, 10_2 CANA_TX, 11_1 CTSB, 11_2 CANA_RX, 12_1 RESET, 12_2 CANB_TX, 13_1 RTSB, 13_2 CANA_RX, 14_1 RXB, 14_2 USB_ID, 15_1 CTSA_RA, 15_2 USB_VBUS, 16_1 TXB, 16_2 GND, 17_1 RTSA_T-, 18_1 RXA_R-, 19_1 TXC_U0, 20_1 TXA_T+, 21_1 USBD-, 22_1 USBD+, 23_1 GND, 24_1 GND, C1, C2, G1, G2
text: CLOCK; GNSS

## PHONEJACK1
designator ?
pins: 1, 2

## PHONEJACK2
designator J?
footprint JAK-PHONE2
pins: 1, 2, 3

## PHONEPLUG1
designator ?
pins: 1, 2

## PHONEPLUG2
designator ?
pins: 1, 2, 3

## PHONEPLUG3
designator ?
pins: 1, 2

## PHOTO
designator ?
pins: A, K

## PinHeader2x4_2mm
designator J?
footprint PinHeader2x2_2mm
pins: 1, 2, 3, 4

## PLEH
designator ?

## PLUG
designator ?
pins: 1

## PLUGSOCKET
designator ?
pins: 1, 2

## PNP
designator ?
pins: B, C, E

## PNP1
designator Q?
footprint SMD-23
footprint TO-92
footprint TO-18B
footprint SMD-24
pins: 1 B, 2 C, 3 E

## PNP2
designator Q?
footprint SMD-23
footprint TO-92
footprint TO-18B
footprint SMD-24
pins: 1 B, 2 E, 3 C

## PNP3
designator Q?
footprint SMD-23
footprint TO-92
footprint TO-18B
footprint SMD-24
pins: 1 C, 2 B, 3 E

## PNP4
designator Q?
footprint SMD-23
footprint TO-92
footprint TO-18B
footprint SMD-24
pins: 1 E, 2 B, 3 C

## PNP5
designator Q?
footprint SMD-23
footprint TO-92
footprint TO-18B
footprint SMD-24
pins: 1 C, 2 E, 3 B

## PNP6
designator Q?
footprint SMD-23
footprint TO-92
footprint TO-18B
footprint SMD-24
pins: 1 E, 2 E, 3 B

## PNP7
designator Q?
pins: 1 C, 2 E, 3 B, 4 E

## PNP-PHOTO
designator ?
pins: C, E

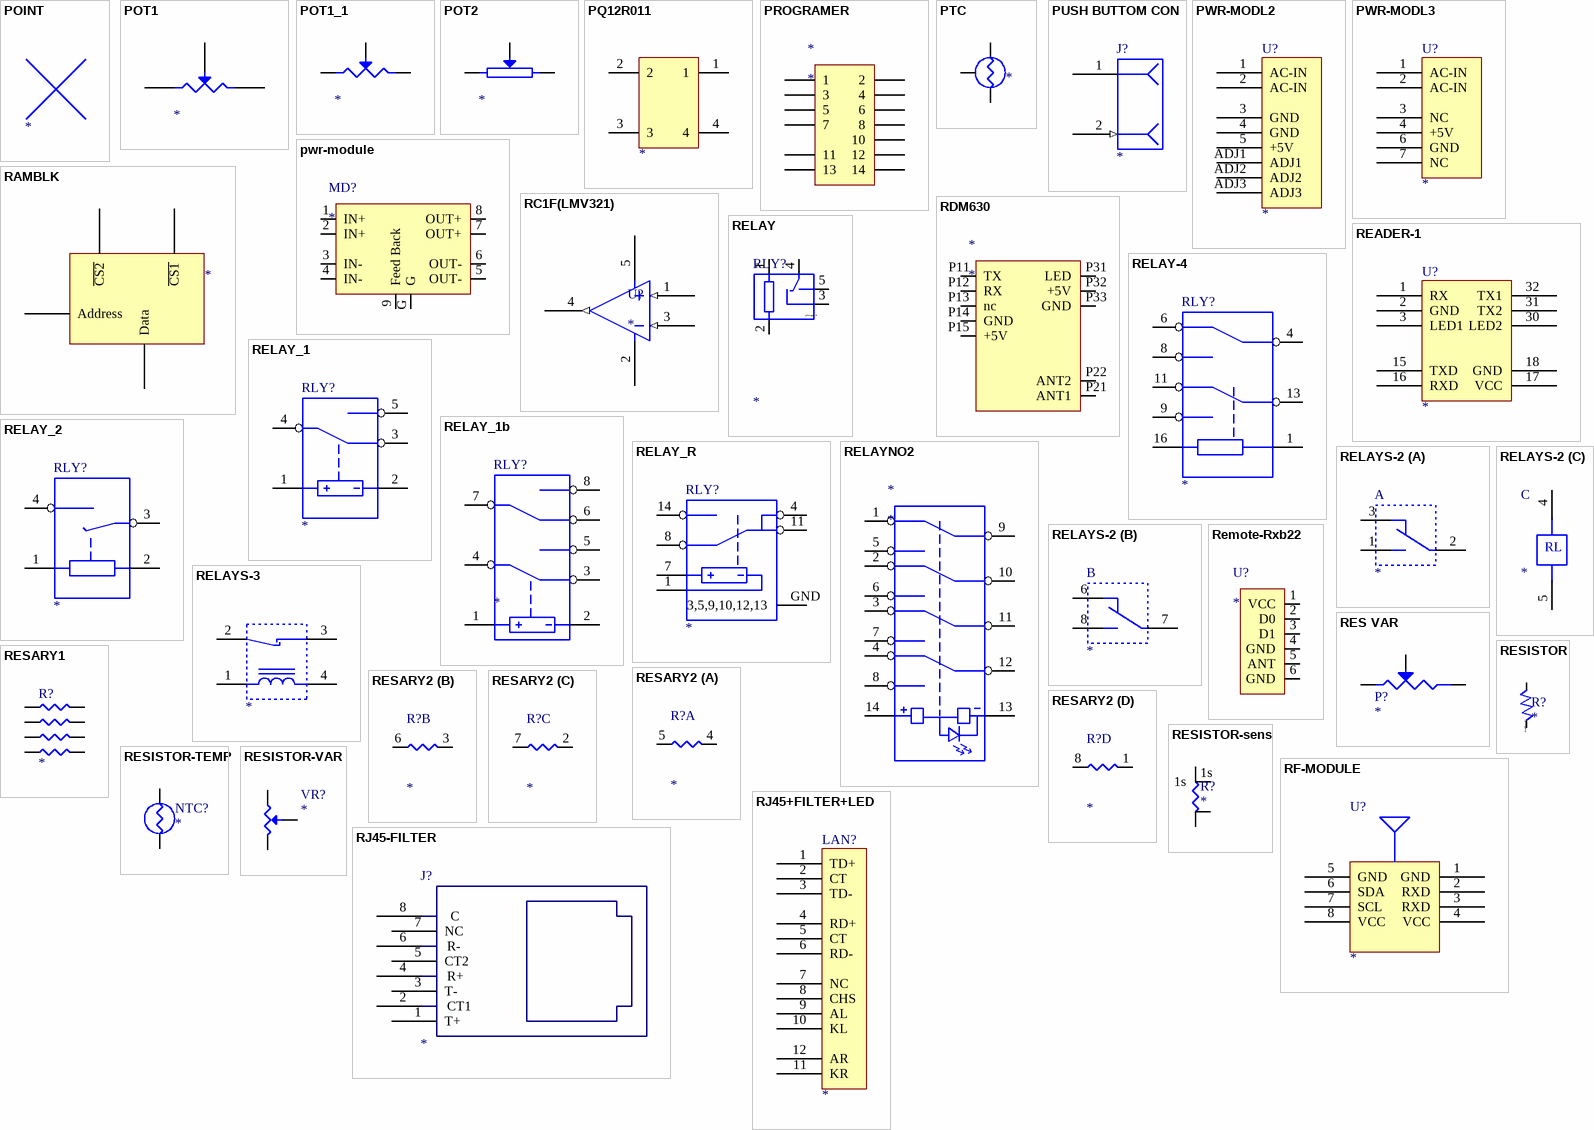
[diagram p48: symbols POINT to RJ45-FILTER]

## POINT
designator ?

## POT1
designator ?
pins: 1, 2, 3

## POT1_1
designator ?
pins: 1, 2, 3

## POT2
designator ?
pins: 1, 2, W

## PQ12R011
designator ?
pins: 1, 2, 3, 4

## PROGRAMER
designator *
footprint HDR2X7B
pins: 1, 2, 3, 4, 5, 6, 7, 8, 10, 11, 12, 13, 14

## PTC
designator ?
pins: 1, 2, 3

## PUSH BUTTOM CON
designator J?
pins: 1, 2 (in)

## PWR-MODL2
designator U?
footprint PWR-MODL2
pins: 1 AC-IN, 2 AC-IN, 3 GND, 4 GND, 5 +5V, ADJ1, ADJ2, ADJ3

## PWR-MODL3
designator U?
footprint PWR-MODL2
pins: 1 AC-IN, 2 AC-IN, 3 NC, 4 +5V, 6 GND, 7 NC

## pwr-module
designator MD?
footprint PWR-MDL5
pins: 1 IN+, 2 IN+, 3 IN-, 4 IN-, 5 OUT-, 6 OUT-, 7 OUT+, 8 OUT+, 9 Feed Back, G

## RAMBLK
designator ?
pins: ?1 ~{CS1}, ?2 ~{CS2}, ?3 Address, ?4 Data

## RC1F(LMV321)
designator U?
footprint G5 (Footprint not found)
pins: 1 (in), 2, 3 (in), 4 (out), 5

## RDM630
designator *
footprint RDM630 (Footprint not found)
pins: P11 TX, P12 RX, P13 nc, P14 GND, P15 +5V, P21 ANT1, P22 ANT2, P31 LED, P32 +5V, P33 GND

## READER-1
designator U?
footprint READER-1
pins: 1 RX, 2 GND, 3 LED1, 15 TXD, 16 RXD, 17 VCC, 18 GND, 30 LED2, 31 TX2, 32 TX1

## RELAY
designator RLY?
footprint RLYA
footprint Model Name (Footprint not found)
pins: 1, 2, 3, 4, 5
text: @DesignPCB

## RELAY-4
designator RLY?
footprint REL8B
pins: 1, 4, 6, 8, 9, 11, 13, 16

## RELAY_1
designator RLY?
footprint RLYA
pins: 1, 2, 3, 4, 5

## RELAY_1b
designator RLY?
footprint RLYA
pins: 1, 2, 3, 4, 5, 6, 7, 8

## RELAY_2
designator RLY?
footprint RLYA
pins: 1, 2, 3, 4

## RELAY_R
designator RLY?
footprint RLYA
pins: 1, 4, 7, 8, 11, 14, GND 3,5,9,10,12,13

## RELAYNO2
designator *
pins: 1, 2, 3, 4, 5, 6, 7, 8, 9, 10, 11, 12, 13, 14

## RELAYS-2
designator ?
Text Field1: REL8
part A pins: 1, 2, 3
part B pins: 6, 7, 8
part C pins: 4, 5
part C text: RL

## RELAYS-3
designator ?
pins: 1, 2, 3, 4

## Remote-Rxb22
designator U?
footprint remote-rxb22-433
pins: 1 VCC, 2 D0, 3 D1, 4 GND, 5 ANT, 6 GND

## RES VAR
designator P?
pins: 1, 2, 3

## RESARY1
designator R?
footprint 0603ARRAY
pins: 1 R1, 2 R2, 3 R3, 4 R4, 5 R5, 6 R6, 7 R7, 8 R8

## RESARY2
designator R?
footprint 1206ARRAY
footprint 0603ARRAY
part A pins: 4 R4, 5 R5
part B pins: 3 R3, 6 R6
part C pins: 2 R2, 7 R7
part D pins: 1 R1, 8 R8

## RESISTOR
designator R?
footprint 0805
footprint AXIAL0.4
footprint 0402
footprint 0704
pins: 1, 2
text: @DesignPCB

## RESISTOR-sens
designator R?
footprint 1005
footprint AXIAL0.4
footprint 0402
footprint 0704
footprint 2512-b (SMD-2512 - 6.3mm*3mm)
pins: 1, 1s, 2, 2s

## RESISTOR-TEMP
designator NTC?
footprint RAD0.3
pins: 1, 2

## RESISTOR-VAR
designator VR?
footprint VRSMD2
footprint VR7
footprint VR5
footprint VR9
pins: 1, 2, 3

## RF-MODULE
designator U?
footprint RF-MODULE1
pins: 1 GND, 2 RXD, 3 RXD, 4 VCC, 5 GND, 6 SDA, 7 SCL, 8 VCC

## RJ45+FILTER+LED
designator LAN?
footprint RJ45+FILTER+LED
pins: 1 TD+, 2 CT, 3 TD-, 4 RD+, 5 CT, 6 RD-, 7 NC, 8 CHS, 9 AL, 10 KL, 11 KR, 12 AR

## RJ45-FILTER
designator J?
footprint RG45
pins: 1 T+, 2      CT1, 3 T-, 4      R+, 5 CT2, 6      R-, 7 NC, 8       C

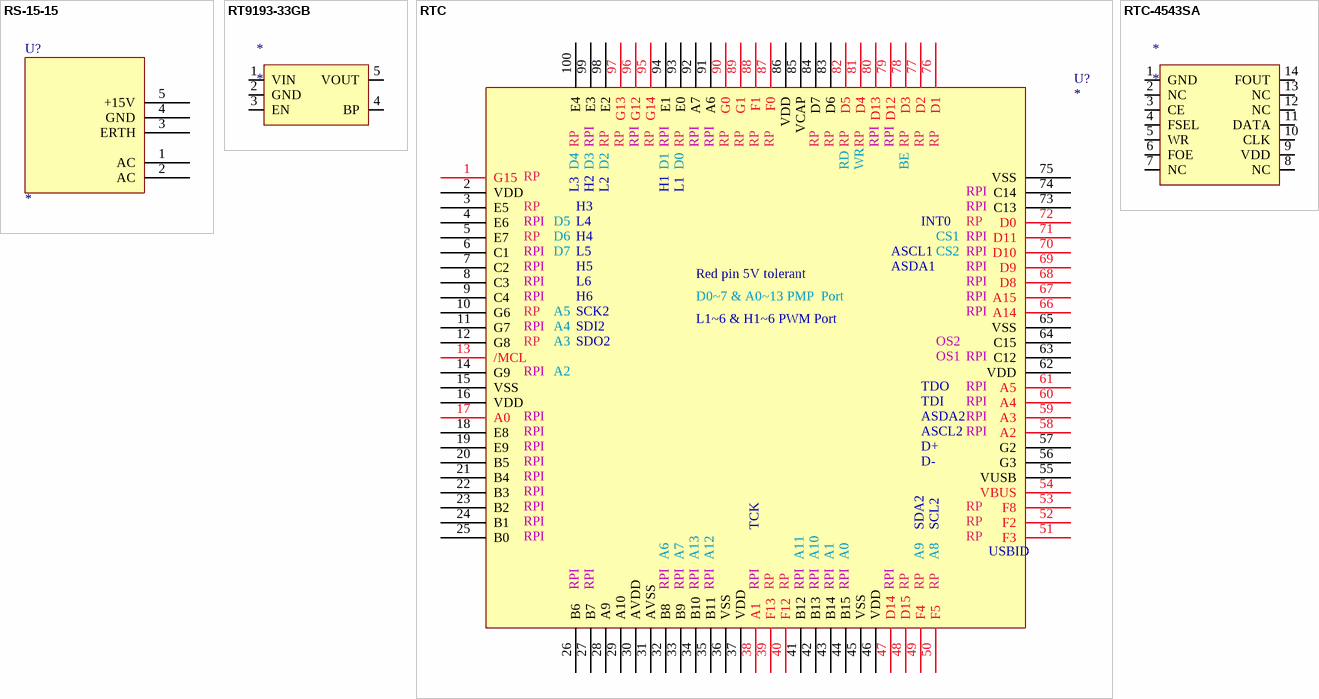
[diagram p49: symbols RS-15-15 to RTC-4543SA]

## RS-15-15
designator U?
footprint PWR-MODL2
pins: 1 AC, 2 AC, 3 ERTH, 4 GND, 5 +15V

## RT9193-33GB
designator *
footprint SOT-23-5
pins: 1 VIN, 2 GND, 3 EN, 4 BP, 5 VOUT

## RTC
designator U?
footprint TQFP-100(FPGA)
pins: 1 G15, 2 VDD, 3 E5, 4 E6, 5 E7, 6 C1, 7 C2, 8 C3, 9 C4, 10 G6, 11 G7, 12 G8, 13 /MCL, 14 G9, 15 VSS, 16 VDD, 17 A0, 18 E8, 19 E9, 20 B5, 21 B4, 22 B3, 23 B2, 24 B1, 25 B0, 26 B6, 27 B7, 28 A9, 29 A10, 30 AVDD, 31 AVSS, 32 B8, 33 B9, 34 B10, 35 B11, 36 VSS, 37 VDD, 38 A1, 39 F13, 40 F12, 41 B12, 42 B13, 43 B14, 44 B15, 45 VSS, 46 VDD, 47 D14, 48 D15, 49 F4, 50 F5, 51 F3, 52 F2, 53 F8, 54 VBUS, 55 VUSB, 56 G3, 57 G2, 58 A2, 59 A3, 60 A4, 61 A5, 62 VDD, 63 C12, 64 C15, 65 VSS, 66 A14, 67 A15, 68 D8, 69 D9, 70 D10, 71 D11, 72 D0, 73 C13, 74 C14, 75 VSS, 76 D1, 77 D2, 78 D3, 79 D12, 80 D13, 81 D4, 82 D5, 83 D6, 84 D7, 85 VCAP, 86 VDD, 87 F0, 88 F1, 89 G1, 90 G0, 91 A6, 92 A7, 93 E0, 94 E1, 95 G14, 96 G12, 97 G13, 98 E2, 99 E3, 100 E4
text: RP; RPI; RD; WR; BE; L3; H2; L2; H1; L1; H3; L4; INT0; H4; CS1; L5; ASCL1; CS2; H5; ASDA1; Red pin 5V tolerant; L6; H6; D0~7 & A0~13 PMP  Port; SCK2; L1~6 & H1~6 PWM Port; SDI2; SDO2; OS2; OS1; TDO; TDI; ASDA2; ASCL2; D+; D-; TCK; SDA2; SCL2; A13; A12; A11; A8; USBID

## RTC-4543SA
designator *
pins: 1 GND, 2 NC, 3 CE, 4 FSEL, 5 WR, 6 FOE, 7 NC, 8 NC, 9 VDD, 10 CLK, 11 DATA, 12 NC, 13 NC, 14 FOUT

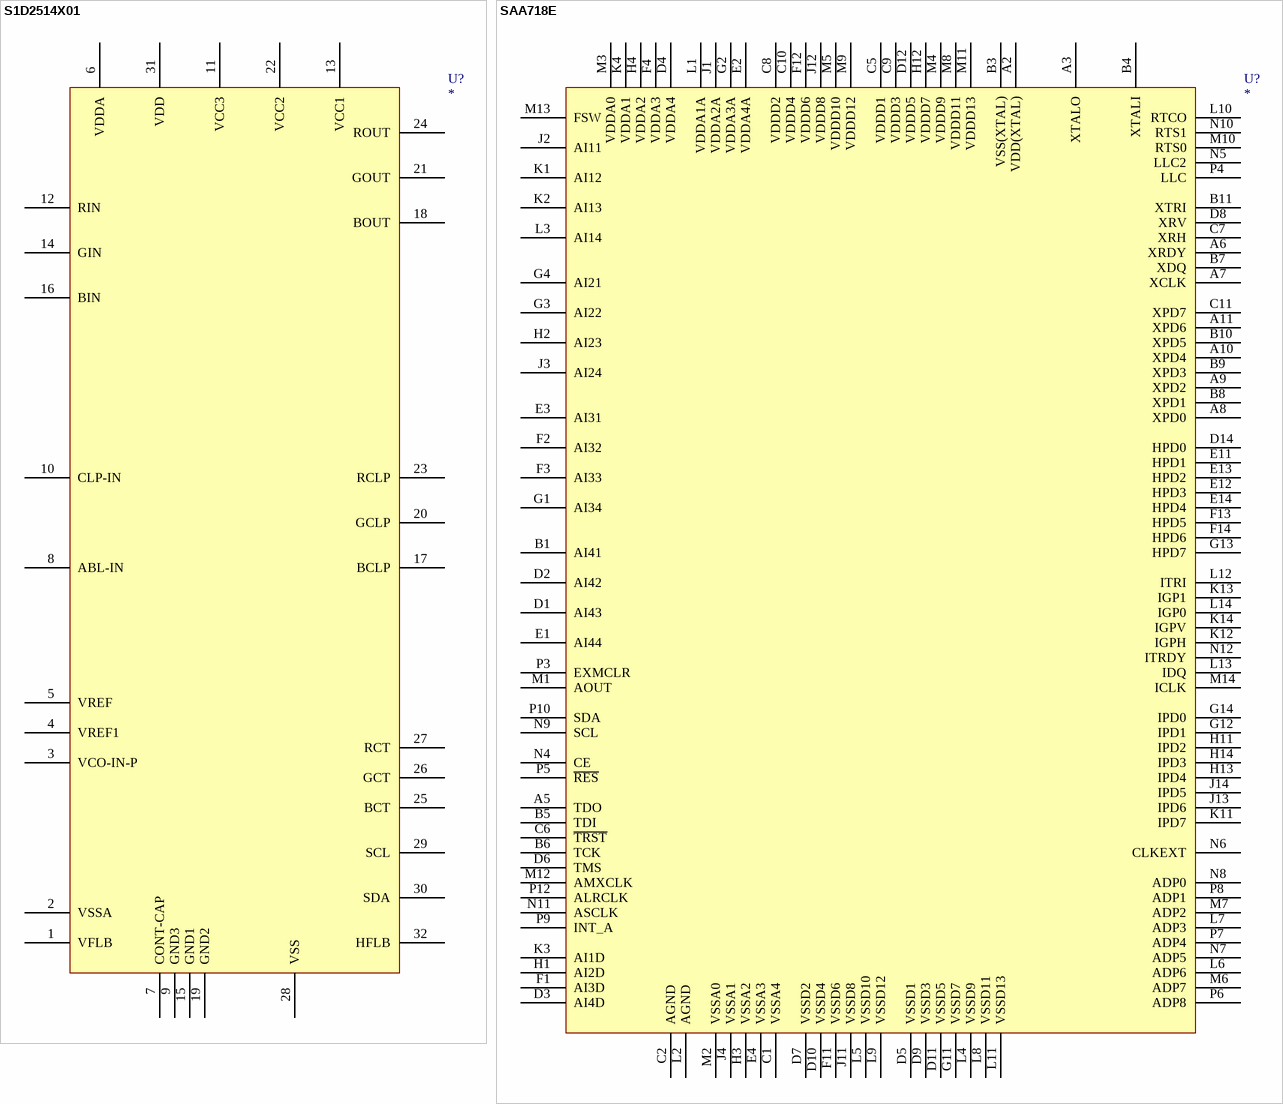
[diagram p50: symbols S1D2514X01 to SAA718E]

## S1D2514X01
designator U?
pins: 1 VFLB, 2 VSSA, 3 VCO-IN-P, 4 VREF1, 5 VREF, 6 VDDA, 7 CONT-CAP, 8 ABL-IN, 9 GND3, 10 CLP-IN, 11 VCC3, 12 RIN, 13 VCC1, 14 GIN, 15 GND1, 16 BIN, 17 BCLP, 18 BOUT, 19 GND2, 20 GCLP, 21 GOUT, 22 VCC2, 23 RCLP, 24 ROUT, 25 BCT, 26 GCT, 27 RCT, 28 VSS, 29 SCL, 30 SDA, 31 VDD, 32 HFLB

## SAA718E
designator U?
footprint BGA156X14
pins: A2 VDD(XTAL), A3 XTALO, A5 TDO, A6 XRDY, A7 XCLK, A8 XPD0, A9 XPD2, A10 XPD4, A11 XPD6, B1 AI41, B3 VSS(XTAL), B4 XTALI, B5 TDI, B6 TCK, B7 XDQ, B8 XPD1, B9 XPD3, B10 XPD5, B11 XTRI, C1 VSSA4, C2 AGND, C5 VDDD1, C6 ~{TRST}, C7 XRH, C8 VDDD2, C9 VDDD3, C10 VDDD4, C11 XPD7, D1 AI43, D2 AI42, D3 AI4D, D4 VDDA4, D5 VSSD1, D6 TMS, D7 VSSD2, D8 XRV, D9 VSSD3, D10 VSSD4, D11 VSSD5, D12 VDDD5, D14 HPD0, E1 AI44, E2 VDDA4A, E3 AI31, E4 VSSA3, E11 HPD1, E12 HPD3, E13 HPD2, E14 HPD4, F1 AI3D, F2 AI32, F3 AI33, F4 VDDA3, F11 VSSD6, F12 VDDD6, F13 HPD5, F14 HPD6, G1 AI34, G2 VDDA3A, G3 AI22, G4 AI21, G11 VSSD7, G12 IPD1, G13 HPD7, G14 IPD0, H1 AI2D, H2 AI23, H3 VSSA2, H4 VDDA2, H11 IPD2, H12 VDDD7, H13 IPD4, H14 IPD3, J1 VDDA2A, J2 AI11, J3 AI24, J4 VSSA1, J11 VSSD8, J12 VDDD8, J13 IPD6, J14 IPD5, K1 AI12, K2 AI13, K3 AI1D, K4 VDDA1, K11 IPD7, K12 IGPH, K13 IGP1, K14 IGPV, L1 VDDA1A, L2 AGND, L3 AI14, L4 VSSD9, L5 VSSD10, L6 ADP6, L7 ADP3, L8 VSSD11, L9 VSSD12, L10 RTCO, L11 VSSD13, L12 ITRI, L13 IDQ, L14 IGP0, M1 AOUT, M2 VSSA0, M3 VDDA0, M4 VDDD9, M5 VDDD10, M6 ADP7, M7 ADP2, M8 VDDD11, M9 VDDD12, M10 RTS0, M11 VDDD13, M12 AMXCLK, M13 FSW, M14 ICLK, N4 CE, N5 LLC2, N6 CLKEXT, N7 ADP5, N8 ADP0, N9 SCL, N10 RTS1, N11 ASCLK, N12 ITRDY, P3 EXMCLR, P4 LLC, P5 ~{RES}, P6 ADP8, P7 ADP4, P8 ADP1, P9 INT_A, P10 SDA, P12 ALRCLK

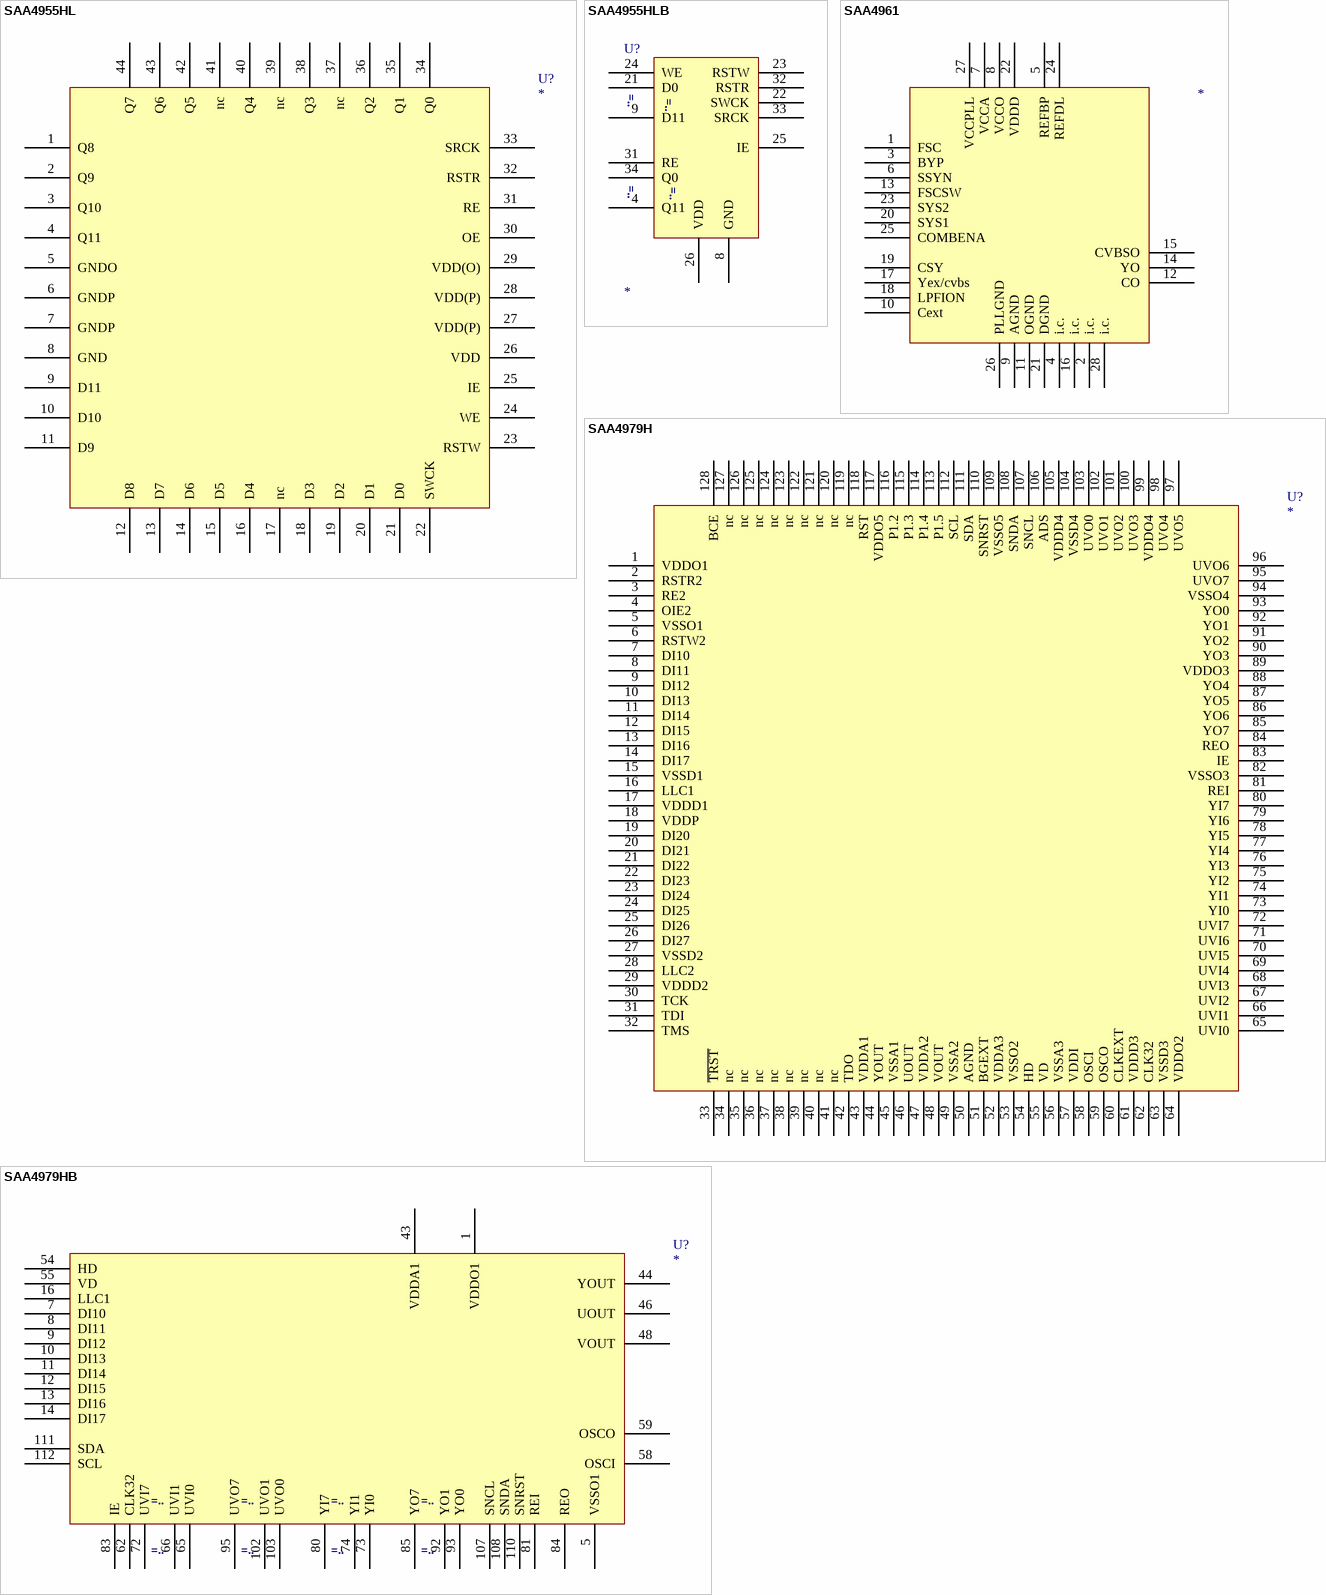
[diagram p51: symbols SAA4955HL to SAA4979HB]

## SAA4955HL
designator U?
footprint LQFP44
pins: 1 Q8, 2 Q9, 3 Q10, 4 Q11, 5 GNDO, 6 GNDP, 7 GNDP, 8 GND, 9 D11, 10 D10, 11 D9, 12 D8, 13 D7, 14 D6, 15 D5, 16 D4, 17 nc, 18 D3, 19 D2, 20 D1, 21 D0, 22 SWCK, 23 RSTW, 24 WE, 25 IE, 26 VDD, 27 VDD(P), 28 VDD(P), 29 VDD(O), 30 OE, 31 RE, 32 RSTR, 33 SRCK, 34 Q0, 35 Q1, 36 Q2, 37 nc, 38 Q3, 39 nc, 40 Q4, 41 nc, 42 Q5, 43 Q6, 44 Q7

## SAA4955HLB
designator U?
footprint LQFP44
pins: 4 Q11, 8 GND, 9 D11, 21 D0, 22 SWCK, 23 RSTW, 24 WE, 25 IE, 26 VDD, 31 RE, 32 RSTR, 33 SRCK, 34 Q0

## SAA4961
designator ?
pins: 1 FSC, 2 i.c., 3 BYP, 4 i.c., 5 REFBP, 6 SSYN, 7 VCCA, 8 VCCO, 9 AGND, 10 Cext, 11 OGND, 12 CO, 13 FSCSW, 14 YO, 15 CVBSO, 16 i.c., 17 Yex/cvbs, 18 LPFION, 19 CSY, 20 SYS1, 21 DGND, 22 VDDD, 23 SYS2, 24 REFDL, 25 COMBENA, 26 PLLGND, 27 VCCPLL, 28 i.c.

## SAA4979H
designator U?
footprint QFP-128
pins: 1 VDDO1, 2 RSTR2, 3 RE2, 4 OIE2, 5 VSSO1, 6 RSTW2, 7 DI10, 8 DI11, 9 DI12, 10 DI13, 11 DI14, 12 DI15, 13 DI16, 14 DI17, 15 VSSD1, 16 LLC1, 17 VDDD1, 18 VDDP, 19 DI20, 20 DI21, 21 DI22, 22 DI23, 23 DI24, 24 DI25, 25 DI26, 26 DI27, 27 VSSD2, 28 LLC2, 29 VDDD2, 30 TCK, 31 TDI, 32 TMS, 33 ~{TRST}, 34 nc, 35 nc, 36 nc, 37 nc, 38 nc, 39 nc, 40 nc, 41 nc, 42 TDO, 43 VDDA1, 44 YOUT, 45 VSSA1, 46 UOUT, 47 VDDA2, 48 VOUT, 49 VSSA2, 50 AGND, 51 BGEXT, 52 VDDA3, 53 VSSO2, 54 HD, 55 VD, 56 VSSA3, 57 VDDI, 58 OSCI, 59 OSCO, 60 CLKEXT, 61 VDDD3, 62 CLK32, 63 VSSD3, 64 VDDO2, 65 UVI0, 66 UVI1, 67 UVI2, 68 UVI3, 69 UVI4, 70 UVI5, 71 UVI6, 72 UVI7, 73 YI0, 74 YI1, 75 YI2, 76 YI3, 77 YI4, 78 YI5, 79 YI6, 80 YI7, 81 REI, 82 VSSO3, 83 IE, 84 REO, 85 YO7, 86 YO6, 87 YO5, 88 YO4, 89 VDDO3, 90 YO3, 91 YO2, 92 YO1, 93 YO0, 94 VSSO4, 95 UVO7, 96 UVO6, 97 UVO5, 98 UVO4, 99 VDDO4, 100 UVO3, 101 UVO2, 102 UVO1, 103 UVO0, 104 VSSD4, 105 VDDD4, 106 ADS, 107 SNCL, 108 SNDA, 109 VSSO5, 110 SNRST, 111 SDA, 112 SCL, 113 P1.5, 114 P1.4, 115 P1.3, 116 P1.2, 117 VDDO5, 118 RST, 119 nc, 120 nc, 121 nc, 122 nc, 123 nc, 124 nc, 125 nc, 126 nc, 127 nc, 128 BCE

## SAA4979HB
designator U?
footprint QFP-128
pins: 1 VDDO1, 5 VSSO1, 7 DI10, 8 DI11, 9 DI12, 10 DI13, 11 DI14, 12 DI15, 13 DI16, 14 DI17, 16 LLC1, 43 VDDA1, 44 YOUT, 46 UOUT, 48 VOUT, 54 HD, 55 VD, 58 OSCI, 59 OSCO, 62 CLK32, 65 UVI0, 66 UVI1, 72 UVI7, 73 YI0, 74 YI1, 80 YI7, 81 REI, 83 IE, 84 REO, 85 YO7, 92 YO1, 93 YO0, 95 UVO7, 102 UVO1, 103 UVO0, 107 SNCL, 108 SNDA, 110 SNRST, 111 SDA, 112 SCL

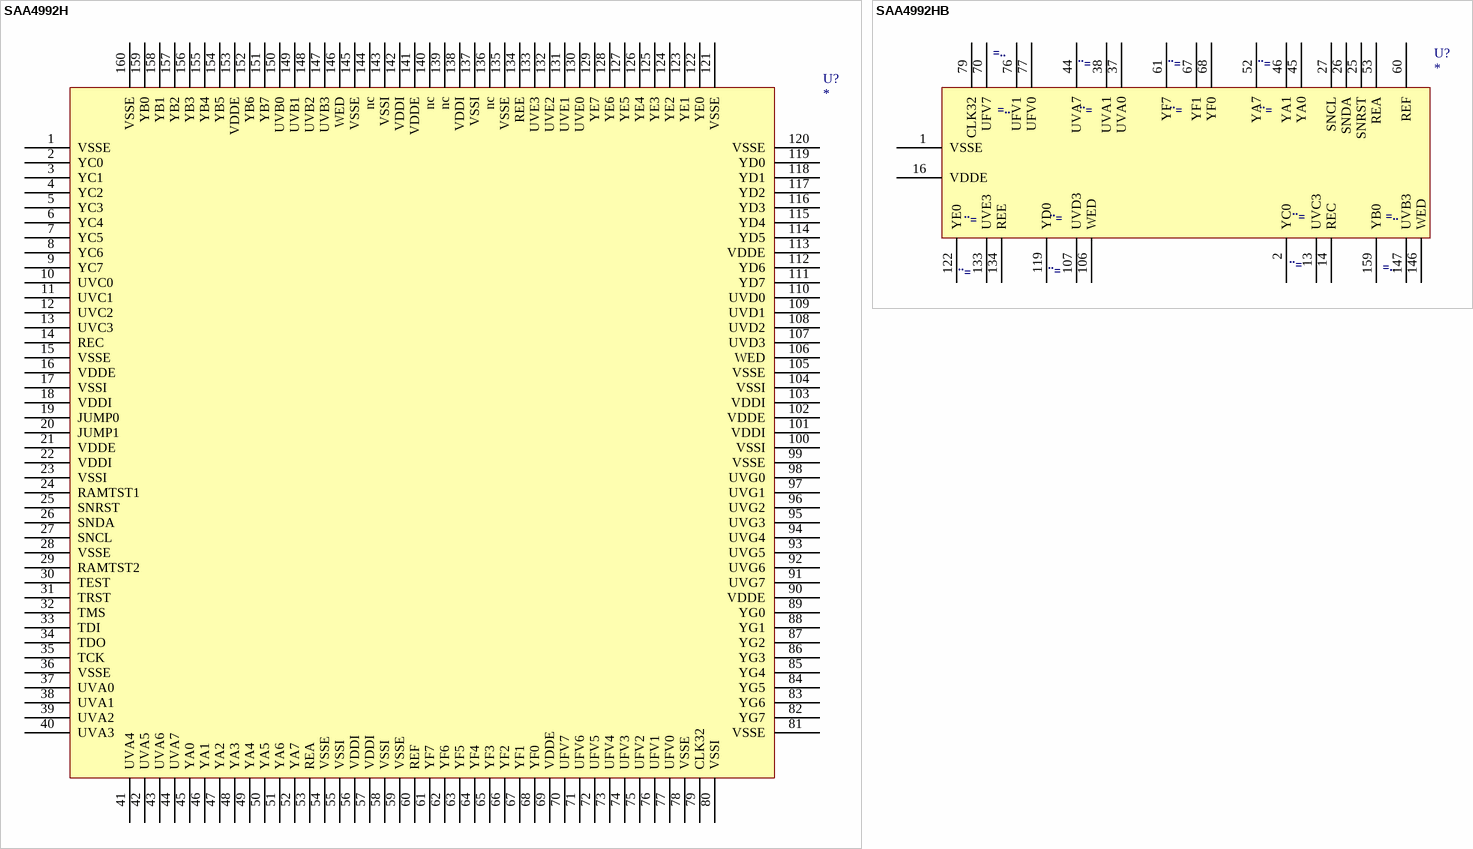
[diagram p52: symbols SAA4992H to SAA4992HB]

## SAA4992H
designator U?
pins: 1 VSSE, 2 YC0, 3 YC1, 4 YC2, 5 YC3, 6 YC4, 7 YC5, 8 YC6, 9 YC7, 10 UVC0, 11 UVC1, 12 UVC2, 13 UVC3, 14 REC, 15 VSSE, 16 VDDE, 17 VSSI, 18 VDDI, 19 JUMP0, 20 JUMP1, 21 VDDE, 22 VDDI, 23 VSSI, 24 RAMTST1, 25 SNRST, 26 SNDA, 27 SNCL, 28 VSSE, 29 RAMTST2, 30 TEST, 31 TRST, 32 TMS, 33 TDI, 34 TDO, 35 TCK, 36 VSSE, 37 UVA0, 38 UVA1, 39 UVA2, 40 UVA3, 41 UVA4, 42 UVA5, 43 UVA6, 44 UVA7, 45 YA0, 46 YA1, 47 YA2, 48 YA3, 49 YA4, 50 YA5, 51 YA6, 52 YA7, 53 REA, 54 VSSE, 55 VSSI, 56 VDDI, 57 VDDI, 58 VSSI, 59 VSSE, 60 REF, 61 YF7, 62 YF6, 63 YF5, 64 YF4, 65 YF3, 66 YF2, 67 YF1, 68 YF0, 69 VDDE, 70 UFV7, 71 UFV6, 72 UFV5, 73 UFV4, 74 UFV3, 75 UFV2, 76 UFV1, 77 UFV0, 78 VSSE, 79 CLK32, 80 VSSI, 81 VSSE, 82 YG7, 83 YG6, 84 YG5, 85 YG4, 86 YG3, 87 YG2, 88 YG1, 89 YG0, 90 VDDE, 91 UVG7, 92 UVG6, 93 UVG5, 94 UVG4, 95 UVG3, 96 UVG2, 97 UVG1, 98 UVG0, 99 VSSE, 100 VSSI, 101 VDDI, 102 VDDE, 103 VDDI, 104 VSSI, 105 VSSE, 106 WED, 107 UVD3, 108 UVD2, 109 UVD1, 110 UVD0, 111 YD7, 112 YD6, 113 VDDE, 114 YD5, 115 YD4, 116 YD3, 117 YD2, 118 YD1, 119 YD0, 120 VSSE, 121 VSSE, 122 YE0, 123 YE1, 124 YE2, 125 YE3, 126 YE4, 127 YE5, 128 YE6, 129 YE7, 130 UVE0, 131 UVE1, 132 UVE2, 133 UVE3, 134 REE, 135 VSSE, 136 nc, 137 VSSI, 138 VDDI, 139 nc, 140 nc, 141 VDDE, 142 VDDI, 143 VSSI, 144 nc, 145 VSSE, 146 WED, 147 UVB3, 148 UVB2, 149 UVB1, 150 UVB0, 151 YB7, 152 YB6, 153 VDDE, 154 YB5, 155 YB4, 156 YB3, 157 YB2, 158 YB1, 159 YB0, 160 VSSE

## SAA4992HB
designator U?
pins: 1 VSSE, 2 YC0, 13 UVC3, 14 REC, 16 VDDE, 25 SNRST, 26 SNDA, 27 SNCL, 37 UVA0, 38 UVA1, 44 UVA7, 45 YA0, 46 YA1, 52 YA7, 53 REA, 60 REF, 61 YF7, 67 YF1, 68 YF0, 70 UFV7, 76 UFV1, 77 UFV0, 79 CLK32, 106 WED, 107 UVD3, 119 YD0, 122 YE0, 133 UVE3, 134 REE, 146 WED, 147 UVB3, 159 YB0

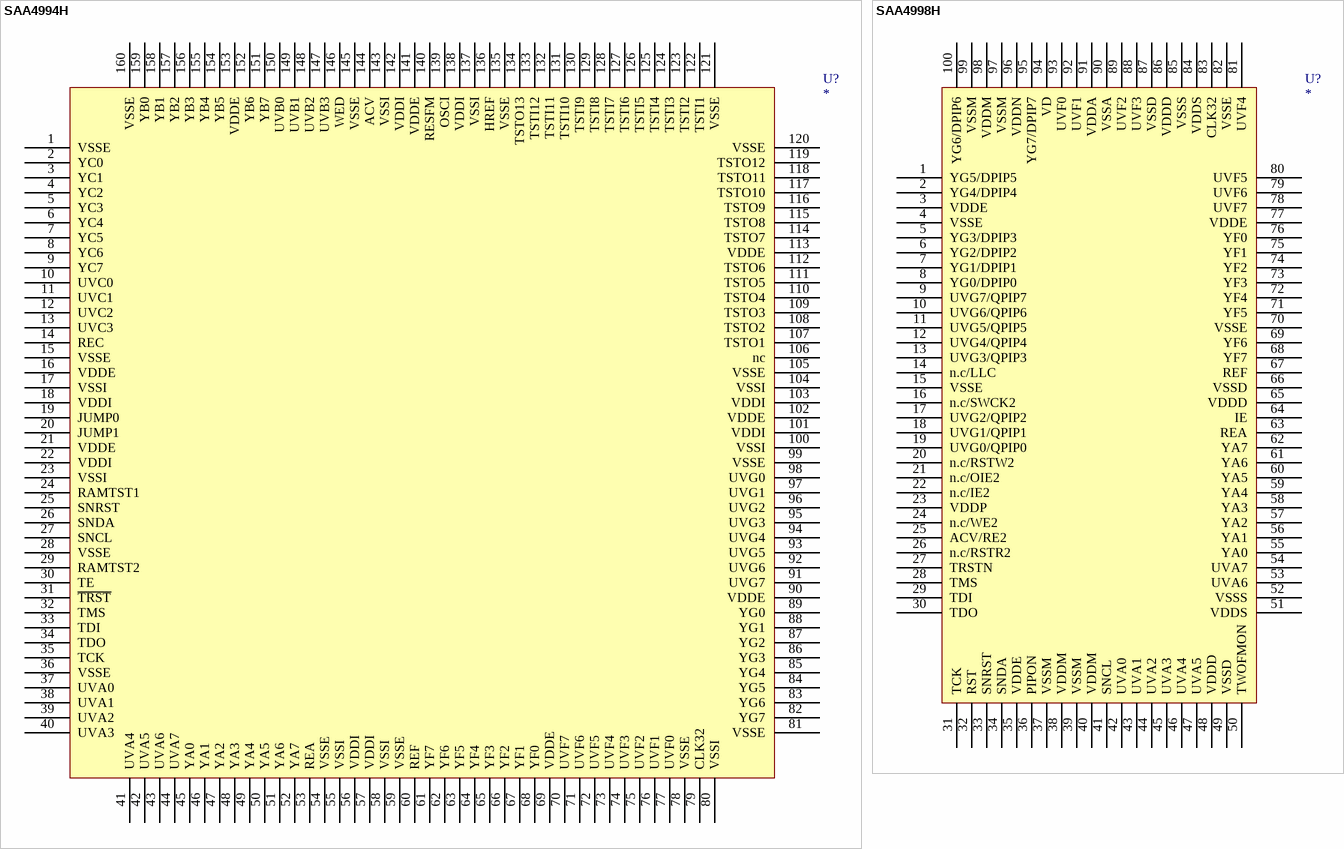
[diagram p53: symbols SAA4994H to SAA4998H]

## SAA4994H
designator U?
footprint QFP-160
pins: 1 VSSE, 2 YC0, 3 YC1, 4 YC2, 5 YC3, 6 YC4, 7 YC5, 8 YC6, 9 YC7, 10 UVC0, 11 UVC1, 12 UVC2, 13 UVC3, 14 REC, 15 VSSE, 16 VDDE, 17 VSSI, 18 VDDI, 19 JUMP0, 20 JUMP1, 21 VDDE, 22 VDDI, 23 VSSI, 24 RAMTST1, 25 SNRST, 26 SNDA, 27 SNCL, 28 VSSE, 29 RAMTST2, 30 TE, 31 ~{TRST}, 32 TMS, 33 TDI, 34 TDO, 35 TCK, 36 VSSE, 37 UVA0, 38 UVA1, 39 UVA2, 40 UVA3, 41 UVA4, 42 UVA5, 43 UVA6, 44 UVA7, 45 YA0, 46 YA1, 47 YA2, 48 YA3, 49 YA4, 50 YA5, 51 YA6, 52 YA7, 53 REA, 54 VSSE, 55 VSSI, 56 VDDI, 57 VDDI, 58 VSSI, 59 VSSE, 60 REF, 61 YF7, 62 YF6, 63 YF5, 64 YF4, 65 YF3, 66 YF2, 67 YF1, 68 YF0, 69 VDDE, 70 UVF7, 71 UVF6, 72 UVF5, 73 UVF4, 74 UVF3, 75 UVF2, 76 UVF1, 77 UVF0, 78 VSSE, 79 CLK32, 80 VSSI, 81 VSSE, 82 YG7, 83 YG6, 84 YG5, 85 YG4, 86 YG3, 87 YG2, 88 YG1, 89 YG0, 90 VDDE, 91 UVG7, 92 UVG6, 93 UVG5, 94 UVG4, 95 UVG3, 96 UVG2, 97 UVG1, 98 UVG0, 99 VSSE, 100 VSSI, 101 VDDI, 102 VDDE, 103 VDDI, 104 VSSI, 105 VSSE, 106 nc, 107 TSTO1, 108 TSTO2, 109 TSTO3, 110 TSTO4, 111 TSTO5, 112 TSTO6, 113 VDDE, 114 TSTO7, 115 TSTO8, 116 TSTO9, 117 TSTO10, 118 TSTO11, 119 TSTO12, 120 VSSE, 121 VSSE, 122 TSTI1, 123 TSTI2, 124 TSTI3, 125 TSTI4, 126 TSTI5, 127 TSTI6, 128 TSTI7, 129 TSTI8, 130 TSTI9, 131 TSTI10, 132 TSTI11, 133 TSTI12, 134 TSTO13, 135 VSSE, 136 HREF, 137 VSSI, 138 VDDI, 139 OSCI, 140 RESFM, 141 VDDE, 142 VDDI, 143 VSSI, 144 ACV, 145 VSSE, 146 WED, 147 UVB3, 148 UVB2, 149 UVB1, 150 UVB0, 151 YB7, 152 YB6, 153 VDDE, 154 YB5, 155 YB4, 156 YB3, 157 YB2, 158 YB1, 159 YB0, 160 VSSE

## SAA4998H
designator U?
footprint SOT317-2
pins: 1 YG5/DPIP5, 2 YG4/DPIP4, 3 VDDE, 4 VSSE, 5 YG3/DPIP3, 6 YG2/DPIP2, 7 YG1/DPIP1, 8 YG0/DPIP0, 9 UVG7/QPIP7, 10 UVG6/QPIP6, 11 UVG5/QPIP5, 12 UVG4/QPIP4, 13 UVG3/QPIP3, 14 n.c/LLC, 15 VSSE, 16 n.c/SWCK2, 17 UVG2/QPIP2, 18 UVG1/QPIP1, 19 UVG0/QPIP0, 20 n.c/RSTW2, 21 n.c/OIE2, 22 n.c/IE2, 23 VDDP, 24 n.c/WE2, 25 ACV/RE2, 26 n.c/RSTR2, 27 TRSTN, 28 TMS, 29 TDI, 30 TDO, 31 TCK, 32 RST, 33 SNRST, 34 SNDA, 35 VDDE, 36 PIPON, 37 VSSM, 38 VDDM, 39 VSSM, 40 VDDM, 41 SNCL, 42 UVA0, 43 UVA1, 44 UVA2, 45 UVA3, 46 UVA4, 47 UVA5, 48 VDDD, 49 VSSD, 50 TWOFMON, 51 VDDS, 52 VSSS, 53 UVA6, 54 UVA7, 55 YA0, 56 YA1, 57 YA2, 58 YA3, 59 YA4, 60 YA5, 61 YA6, 62 YA7, 63 REA, 64 IE, 65 VDDD, 66 VSSD, 67 REF, 68 YF7, 69 YF6, 70 VSSE, 71 YF5, 72 YF4, 73 YF3, 74 YF2, 75 YF1, 76 YF0, 77 VDDE, 78 UVF7, 79 UVF6, 80 UVF5, 81 UVF4, 82 VSSE, 83 CLK32, 84 VDDS, 85 VSSS, 86 VDDD, 87 VSSD, 88 UVF3, 89 UVF2, 90 VSSA, 91 VDDA, 92 UVF1, 93 UVF0, 94 VD, 95 YG7/DPIP7, 96 VDDN, 97 VSSM, 98 VDDM, 99 VSSM, 100 YG6/DPIP6

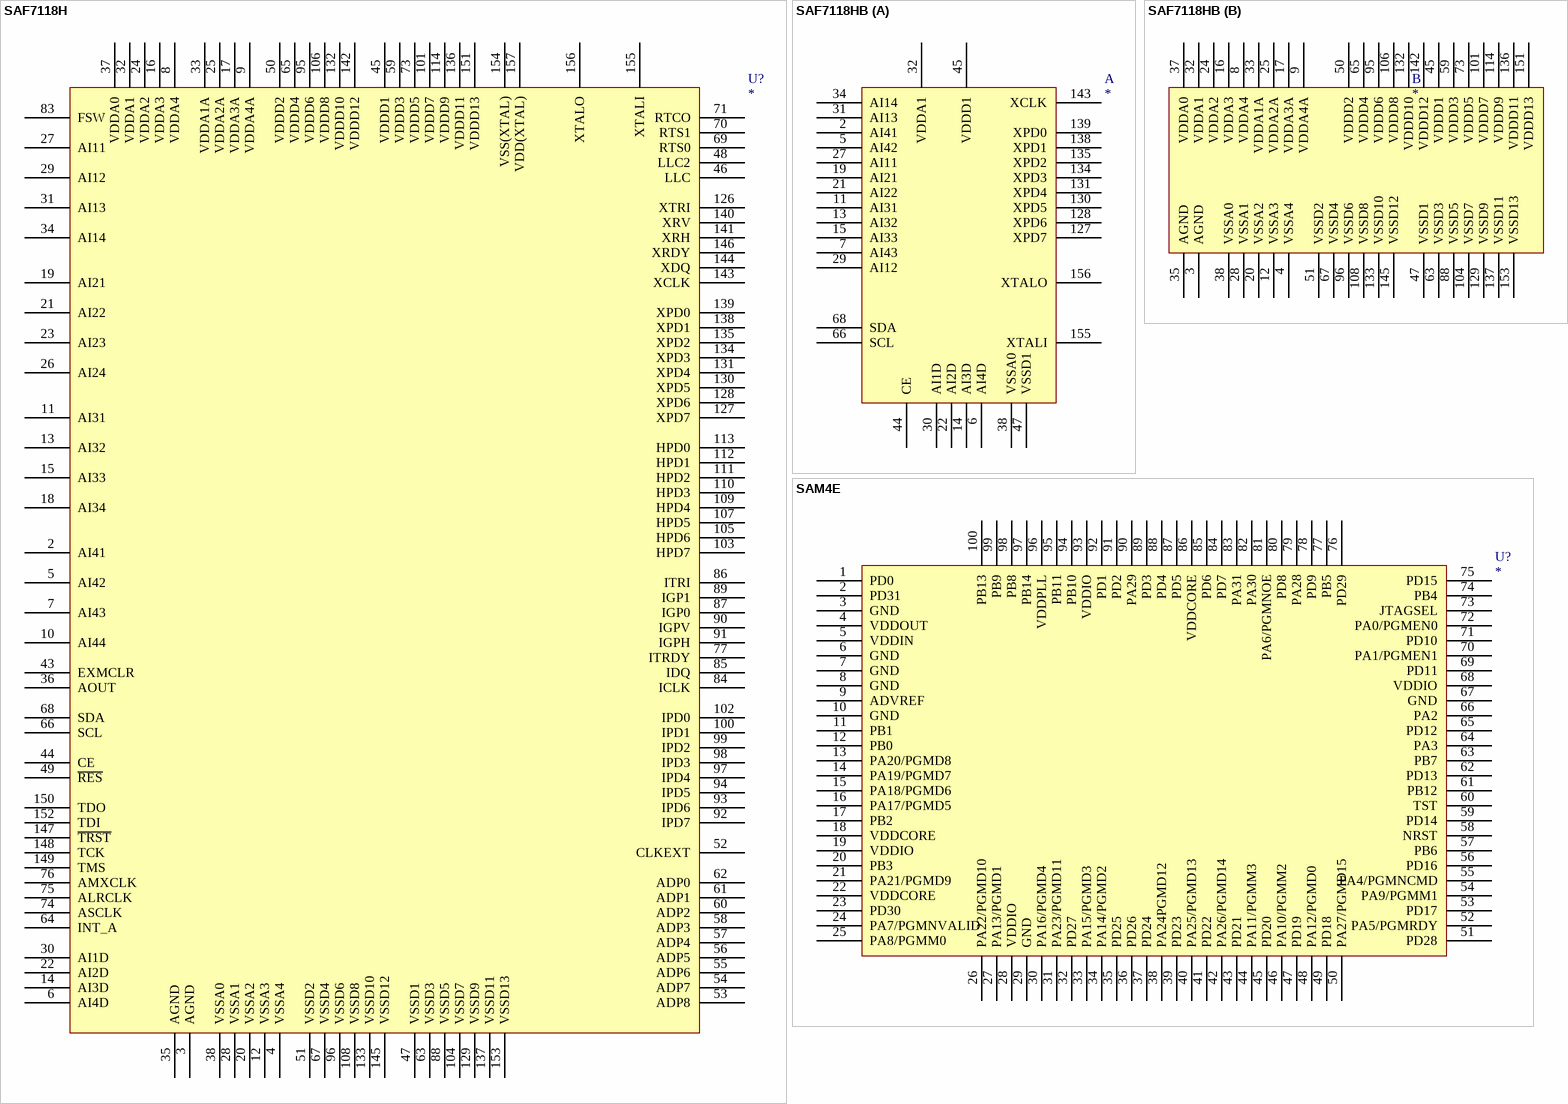
[diagram p54: symbols SAF7118H to SAM4E]

## SAF7118H
designator U?
footprint QFP160
pins: 2 AI41, 3 AGND, 4 VSSA4, 5 AI42, 6 AI4D, 7 AI43, 8 VDDA4, 9 VDDA4A, 10 AI44, 11 AI31, 12 VSSA3, 13 AI32, 14 AI3D, 15 AI33, 16 VDDA3, 17 VDDA3A, 18 AI34, 19 AI21, 20 VSSA2, 21 AI22, 22 AI2D, 23 AI23, 24 VDDA2, 25 VDDA2A, 26 AI24, 27 AI11, 28 VSSA1, 29 AI12, 30 AI1D, 31 AI13, 32 VDDA1, 33 VDDA1A, 34 AI14, 35 AGND, 36 AOUT, 37 VDDA0, 38 VSSA0, 43 EXMCLR, 44 CE, 45 VDDD1, 46 LLC, 47 VSSD1, 48 LLC2, 49 ~{RES}, 50 VDDD2, 51 VSSD2, 52 CLKEXT, 53 ADP8, 54 ADP7, 55 ADP6, 56 ADP5, 57 ADP4, 58 ADP3, 59 VDDD3, 60 ADP2, 61 ADP1, 62 ADP0, 63 VSSD3, 64 INT_A, 65 VDDD4, 66 SCL, 67 VSSD4, 68 SDA, 69 RTS0, 70 RTS1, 71 RTCO, 73 VDDD5, 74 ASCLK, 75 ALRCLK, 76 AMXCLK, 77 ITRDY, 83 FSW, 84 ICLK, 85 IDQ, 86 ITRI, 87 IGP0, 88 VSSD5, 89 IGP1, 90 IGPV, 91 IGPH, 92 IPD7, 93 IPD6, 94 IPD5, 95 VDDD6, 96 VSSD6, 97 IPD4, 98 IPD3, 99 IPD2, 100 IPD1, 101 VDDD7, 102 IPD0, 103 HPD7, 104 VSSD7, 105 HPD6, 106 VDDD8, 107 HPD5, 108 VSSD8, 109 HPD4, 110 HPD3, 111 HPD2, 112 HPD1, 113 HPD0, 114 VDDD9, 126 XTRI, 127 XPD7, 128 XPD6, 129 VSSD9, 130 XPD5, 131 XPD4, 132 VDDD10, 133 VSSD10, 134 XPD3, 135 XPD2, 136 VDDD11, 137 VSSD11, 138 XPD1, 139 XPD0, 140 XRV, 141 XRH, 142 VDDD12, 143 XCLK, 144 XDQ, 145 VSSD12, 146 XRDY, 147 ~{TRST}, 148 TCK, 149 TMS, 150 TDO, 151 VDDD13, 152 TDI, 153 VSSD13, 154 VSS(XTAL), 155 XTALI, 156 XTALO, 157 VDD(XTAL)

## SAF7118HB
designator ?
part A pins: 2 AI41, 5 AI42, 6 AI4D, 7 AI43, 11 AI31, 13 AI32, 14 AI3D, 15 AI33, 19 AI21, 21 AI22, 22 AI2D, 27 AI11, 29 AI12, 30 AI1D, 31 AI13, 32 VDDA1, 34 AI14, 38 VSSA0, 44 CE, 45 VDDD1, 47 VSSD1, 66 SCL, 68 SDA, 127 XPD7, 128 XPD6, 130 XPD5, 131 XPD4, 134 XPD3, 135 XPD2, 138 XPD1, 139 XPD0, 143 XCLK, 155 XTALI, 156 XTALO
part B pins: 3 AGND, 4 VSSA4, 8 VDDA4, 9 VDDA4A, 12 VSSA3, 16 VDDA3, 17 VDDA3A, 20 VSSA2, 24 VDDA2, 25 VDDA2A, 28 VSSA1, 32 VDDA1, 33 VDDA1A, 35 AGND, 37 VDDA0, 38 VSSA0, 45 VDDD1, 47 VSSD1, 50 VDDD2, 51 VSSD2, 59 VDDD3, 63 VSSD3, 65 VDDD4, 67 VSSD4, 73 VDDD5, 88 VSSD5, 95 VDDD6, 96 VSSD6, 101 VDDD7, 104 VSSD7, 106 VDDD8, 108 VSSD8, 114 VDDD9, 129 VSSD9, 132 VDDD10, 133 VSSD10, 136 VDDD11, 137 VSSD11, 142 VDDD12, 145 VSSD12, 151 VDDD13, 153 VSSD13

## SAM4E
designator U?
footprint LQFP100
pins: 1 PD0, 2 PD31, 3 GND, 4 VDDOUT, 5 VDDIN, 6 GND, 7 GND, 8 GND, 9 ADVREF, 10 GND, 11 PB1, 12 PB0, 13 PA20/PGMD8, 14 PA19/PGMD7, 15 PA18/PGMD6, 16 PA17/PGMD5, 17 PB2, 18 VDDCORE, 19 VDDIO, 20 PB3, 21 PA21/PGMD9, 22 VDDCORE, 23 PD30, 24 PA7/PGMNVALID, 25 PA8/PGMM0, 26 PA22/PGMD10, 27 PA13/PGMD1, 28 VDDIO, 29 GND, 30 PA16/PGMD4, 31 PA23/PGMD11, 32 PD27, 33 PA15/PGMD3, 34 PA14/PGMD2, 35 PD25, 36 PD26, 37 PD24, 38 PA24PGMD12, 39 PD23, 40 PA25/PGMD13, 41 PD22, 42 PA26/PGMD14, 43 PD21, 44 PA11/PGMM3, 45 PD20, 46 PA10/PGMM2, 47 PD19, 48 PA12/PGMD0, 49 PD18, 50 PA27/PGMD15, 51 PD28, 52 PA5/PGMRDY, 53 PD17, 54 PA9/PGMM1, 55 PA4/PGMNCMD, 56 PD16, 57 PB6, 58 NRST, 59 PD14, 60 TST, 61 PB12, 62 PD13, 63 PB7, 64 PA3, 65 PD12, 66 PA2, 67 GND, 68 VDDIO, 69 PD11, 70 PA1/PGMEN1, 71 PD10, 72 PA0/PGMEN0, 73 JTAGSEL, 74 PB4, 75 PD15, 76 PD29, 77 PB5, 78 PD9, 79 PA28, 80 PD8, 81 PA6/PGMNOE, 82 PA30, 83 PA31, 84 PD7, 85 PD6, 86 VDDCORE, 87 PD5, 88 PD4, 89 PD3, 90 PA29, 91 PD2, 92 PD1, 93 VDDIO, 94 PB10, 95 PB11, 96 VDDPLL, 97 PB14, 98 PB8, 99 PB9, 100 PB13

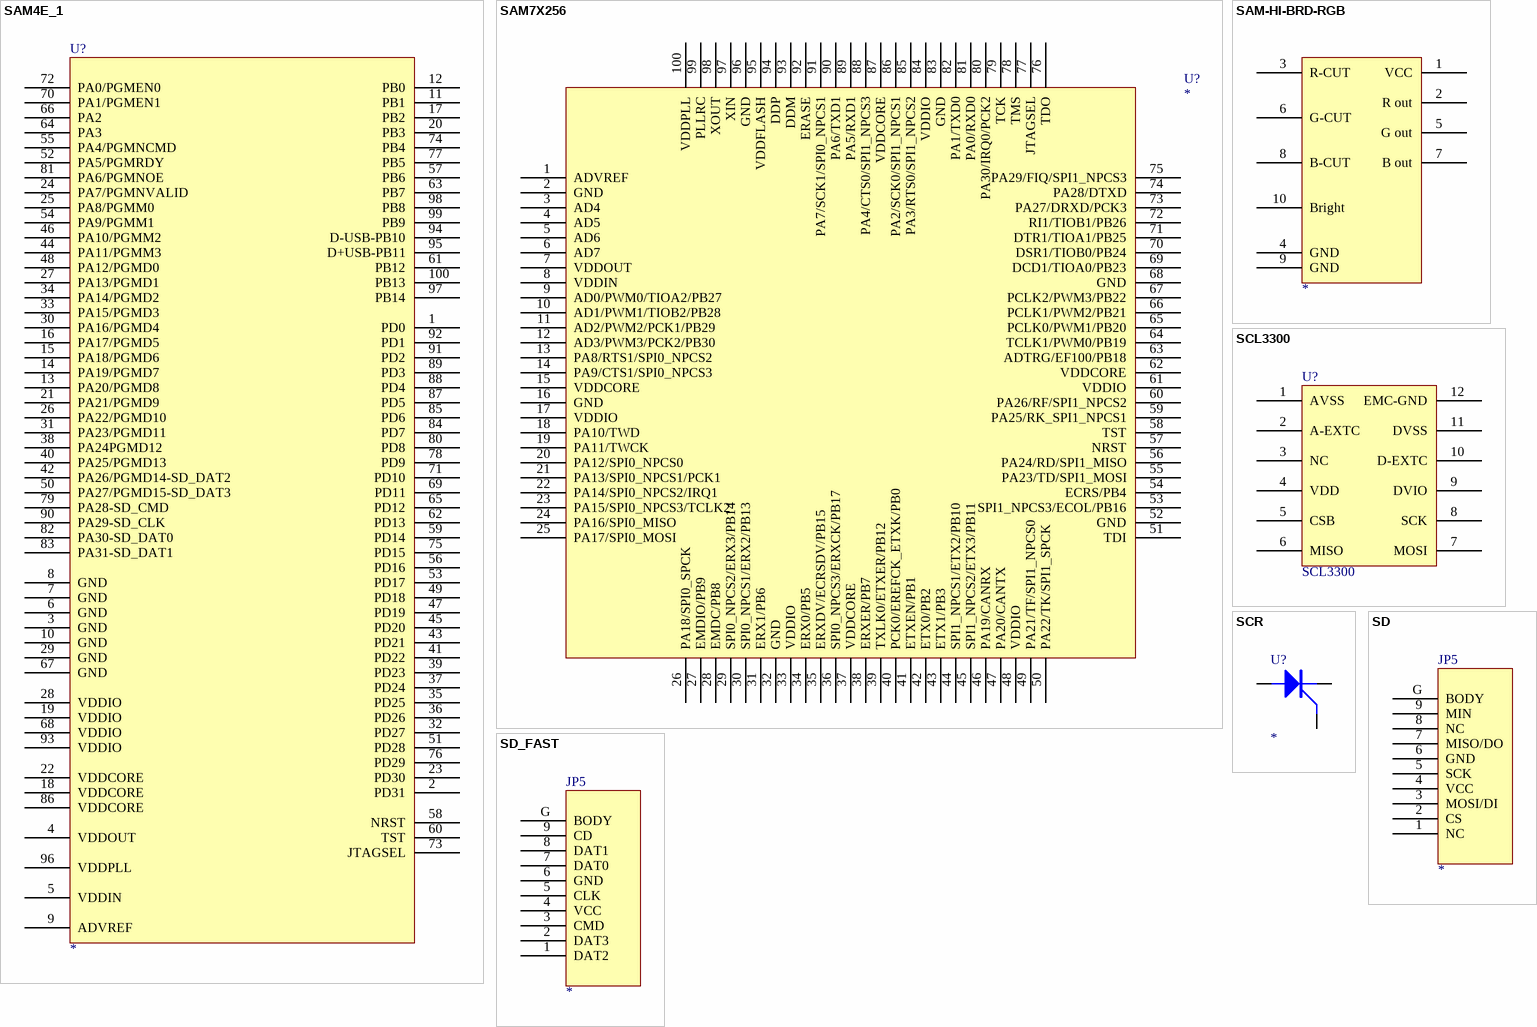
[diagram p55: symbols SAM4E_1 to SD_FAST]

## SAM4E_1
designator U?
footprint LQFP100
pins: 1 PD0, 2 PD31, 3 GND, 4 VDDOUT, 5 VDDIN, 6 GND, 7 GND, 8 GND, 9 ADVREF, 10 GND, 11 PB1, 12 PB0, 13 PA20/PGMD8, 14 PA19/PGMD7, 15 PA18/PGMD6, 16 PA17/PGMD5, 17 PB2, 18 VDDCORE, 19 VDDIO, 20 PB3, 21 PA21/PGMD9, 22 VDDCORE, 23 PD30, 24 PA7/PGMNVALID, 25 PA8/PGMM0, 26 PA22/PGMD10, 27 PA13/PGMD1, 28 VDDIO, 29 GND, 30 PA16/PGMD4, 31 PA23/PGMD11, 32 PD27, 33 PA15/PGMD3, 34 PA14/PGMD2, 35 PD25, 36 PD26, 37 PD24, 38 PA24PGMD12, 39 PD23, 40 PA25/PGMD13, 41 PD22, 42 PA26/PGMD14-SD_DAT2, 43 PD21, 44 PA11/PGMM3, 45 PD20, 46 PA10/PGMM2, 47 PD19, 48 PA12/PGMD0, 49 PD18, 50 PA27/PGMD15-SD_DAT3, 51 PD28, 52 PA5/PGMRDY, 53 PD17, 54 PA9/PGMM1, 55 PA4/PGMNCMD, 56 PD16, 57 PB6, 58 NRST, 59 PD14, 60 TST, 61 PB12, 62 PD13, 63 PB7, 64 PA3, 65 PD12, 66 PA2, 67 GND, 68 VDDIO, 69 PD11, 70 PA1/PGMEN1, 71 PD10, 72 PA0/PGMEN0, 73 JTAGSEL, 74 PB4, 75 PD15, 76 PD29, 77 PB5, 78 PD9, 79 PA28-SD_CMD, 80 PD8, 81 PA6/PGMNOE, 82 PA30-SD_DAT0, 83 PA31-SD_DAT1, 84 PD7, 85 PD6, 86 VDDCORE, 87 PD5, 88 PD4, 89 PD3, 90 PA29-SD_CLK, 91 PD2, 92 PD1, 93 VDDIO, 94 D-USB-PB10, 95 D+USB-PB11, 96 VDDPLL, 97 PB14, 98 PB8, 99 PB9, 100 PB13

## SAM7X256
designator U?
pins: 1 ADVREF, 2 GND, 3 AD4, 4 AD5, 5 AD6, 6 AD7, 7 VDDOUT, 8 VDDIN, 9 AD0/PWM0/TIOA2/PB27, 10 AD1/PWM1/TIOB2/PB28, 11 AD2/PWM2/PCK1/PB29, 12 AD3/PWM3/PCK2/PB30, 13 PA8/RTS1/SPI0_NPCS2, 14 PA9/CTS1/SPI0_NPCS3, 15 VDDCORE, 16 GND, 17 VDDIO, 18 PA10/TWD, 19 PA11/TWCK, 20 PA12/SPI0_NPCS0, 21 PA13/SPI0_NPCS1/PCK1, 22 PA14/SPI0_NPCS2/IRQ1, 23 PA15/SPI0_NPCS3/TCLK2, 24 PA16/SPI0_MISO, 25 PA17/SPI0_MOSI, 26 PA18/SPI0_SPCK, 27 EMDIO/PB9, 28 EMDC/PB8, 29 SPI0_NPCS2/ERX3/PB14, 30 SPI0_NPCS1/ERX2/PB13, 31 ERX1/PB6, 32 GND, 33 VDDIO, 34 ERX0/PB5, 35 ERXDV/ECRSDV/PB15, 36 SPI0_NPCS3/ERXCK/PB17, 37 VDDCORE, 38 ERXER/PB7, 39 TXLK0/ETXER/PB12, 40 PCK0/EREFCK_ETXK/PB0, 41 ETXEN/PB1, 42 ETX0/PB2, 43 ETX1/PB3, 44 SPI1_NPCS1/ETX2/PB10, 45 SPI1_NPCS2/ETX3/PB11, 46 PA19/CANRX, 47 PA20/CANTX, 48 VDDIO, 49 PA21/TF/SPI1_NPCS0, 50 PA22/TK/SPI1_SPCK, 51 TDI, 52 GND, 53 SPI1_NPCS3/ECOL/PB16, 54 ECRS/PB4, 55 PA23/TD/SPI1_MOSI, 56 PA24/RD/SPI1_MISO, 57 NRST, 58 TST, 59 PA25/RK_SPI1_NPCS1, 60 PA26/RF/SPI1_NPCS2, 61 VDDIO, 62 VDDCORE, 63 ADTRG/EF100/PB18, 64 TCLK1/PWM0/PB19, 65 PCLK0/PWM1/PB20, 66 PCLK1/PWM2/PB21, 67 PCLK2/PWM3/PB22, 68 GND, 69 DCD1/TIOA0/PB23, 70 DSR1/TIOB0/PB24, 71 DTR1/TIOA1/PB25, 72 RI1/TIOB1/PB26, 73 PA27/DRXD/PCK3, 74 PA28/DTXD, 75 PA29/FIQ/SPI1_NPCS3, 76 TDO, 77 JTAGSEL, 78 TMS, 79 TCK, 80 PA30/IRQ0/PCK2, 81 PA0/RXD0, 82 PA1/TXD0, 83 GND, 84 VDDIO, 85 PA3/RTS0/SPI1_NPCS2, 86 PA2/SCK0/SPI1_NPCS1, 87 VDDCORE, 88 PA4/CTS0/SPI1_NPCS3, 89 PA5/RXD1, 90 PA6/TXD1, 91 PA7/SCK1/SPI0_NPCS1, 92 ERASE, 93 DDM, 94 DDP, 95 VDDFLASH, 96 GND, 97 XIN, 98 XOUT, 99 PLLRC, 100 VDDPLL

## SAM-HI-BRD-RGB
designator ?
pins: 1 VCC, 2 R out, 3 R-CUT, 4 GND, 5 G out, 6 G-CUT, 7 B out, 8 B-CUT, 9 GND, 10 Bright

## SCL3300
designator U?
Tilt Sensor
footprint SCL3300
pins: 1 AVSS, 2 A-EXTC, 3 NC, 4 VDD, 5 CSB, 6 MISO, 7 MOSI, 8 SCK, 9 DVIO, 10 D-EXTC, 11 DVSS, 12 EMC-GND

## SCR
designator U?
footprint SCR2
pins: A, G, K

## SD
designator JP5
footprint SDCARD1
pins: 1 NC, 2 CS, 3 MOSI/DI, 4 VCC, 5 SCK, 6 GND, 7 MISO/DO, 8 NC, 9 MIN, G BODY
2 alternate drawings of the same symbol

## SD_FAST
designator JP5
footprint SDCARD1
pins: 1 DAT2, 2 DAT3, 3 CMD, 4 VCC, 5 CLK, 6 GND, 7 DAT0, 8 DAT1, 9 CD, G BODY
2 alternate drawings of the same symbol

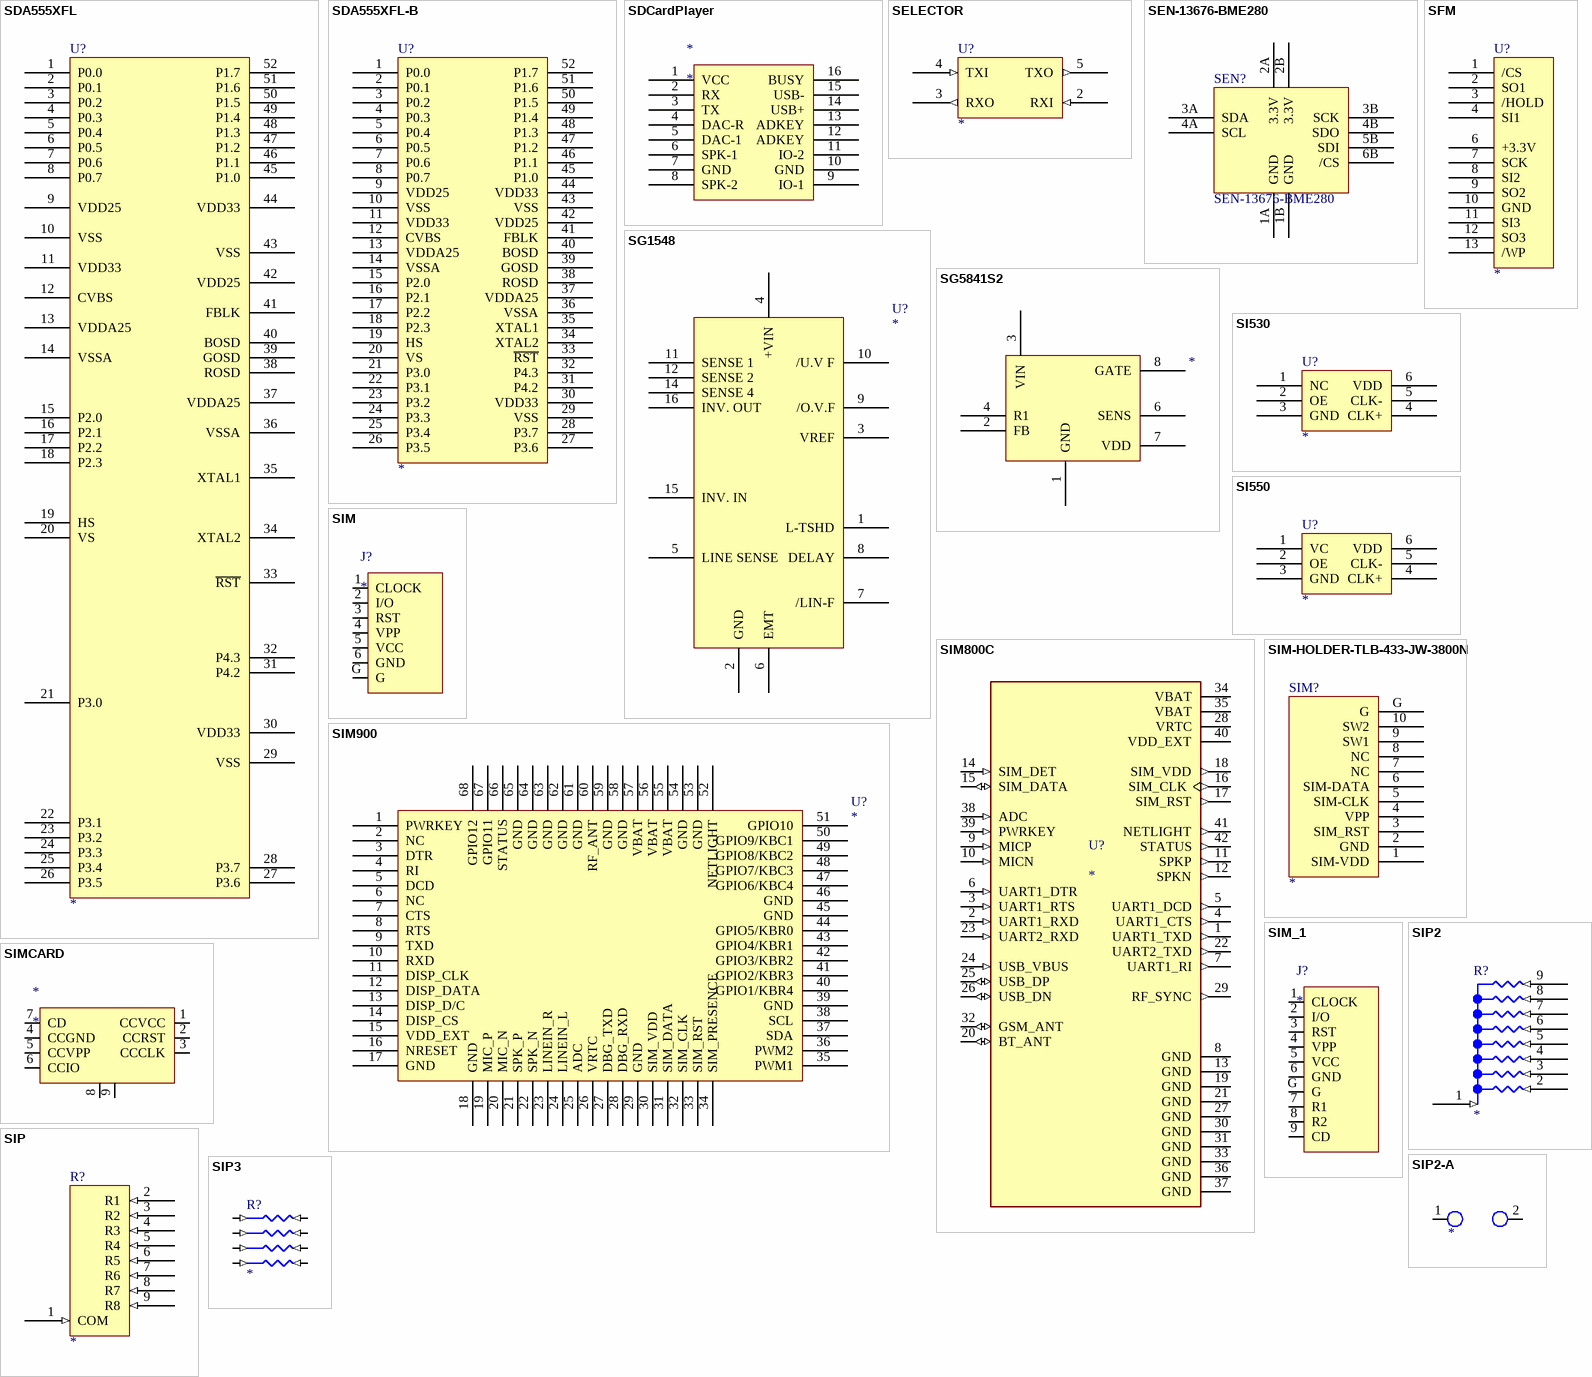
[diagram p56: symbols SDA555XFL to SIP3]

## SDA555XFL
designator U?
TVText Pro
footprint DIL52
pins: 1 P0.0, 2 P0.1, 3 P0.2, 4 P0.3, 5 P0.4, 6 P0.5, 7 P0.6, 8 P0.7, 9 VDD25, 10 VSS, 11 VDD33, 12 CVBS, 13 VDDA25, 14 VSSA, 15 P2.0, 16 P2.1, 17 P2.2, 18 P2.3, 19 HS, 20 VS, 21 P3.0, 22 P3.1, 23 P3.2, 24 P3.3, 25 P3.4, 26 P3.5, 27 P3.6, 28 P3.7, 29 VSS, 30 VDD33, 31 P4.2, 32 P4.3, 33 ~{RST}, 34 XTAL2, 35 XTAL1, 36 VSSA, 37 VDDA25, 38 ROSD, 39 GOSD, 40 BOSD, 41 FBLK, 42 VDD25, 43 VSS, 44 VDD33, 45 P1.0, 46 P1.1, 47 P1.2, 48 P1.3, 49 P1.4, 50 P1.5, 51 P1.6, 52 P1.7

## SDA555XFL-B
designator U?
footprint DIL52
pins: 1 P0.0, 2 P0.1, 3 P0.2, 4 P0.3, 5 P0.4, 6 P0.5, 7 P0.6, 8 P0.7, 9 VDD25, 10 VSS, 11 VDD33, 12 CVBS, 13 VDDA25, 14 VSSA, 15 P2.0, 16 P2.1, 17 P2.2, 18 P2.3, 19 HS, 20 VS, 21 P3.0, 22 P3.1, 23 P3.2, 24 P3.3, 25 P3.4, 26 P3.5, 27 P3.6, 28 P3.7, 29 VSS, 30 VDD33, 31 P4.2, 32 P4.3, 33 ~{RST}, 34 XTAL2, 35 XTAL1, 36 VSSA, 37 VDDA25, 38 ROSD, 39 GOSD, 40 BOSD, 41 FBLK, 42 VDD25, 43 VSS, 44 VDD33, 45 P1.0, 46 P1.1, 47 P1.2, 48 P1.3, 49 P1.4, 50 P1.5, 51 P1.6, 52 P1.7

## SDCardPlayer
designator *
pins: 1 VCC, 2 RX, 3 TX, 4 DAC-R, 5 DAC-1, 6 SPK-1, 7 GND, 8 SPK-2, 9 IO-1, 10 GND, 11 IO-2, 12 ADKEY, 13 ADKEY, 14 USB+, 15 USB-, 16 BUSY

## SELECTOR
designator U?
pins: 2 RXI (in), 3 RXO (out), 4 TXI (in), 5 TXO (out)

## SEN-13676-BME280
designator SEN?
footprint sen-bme280
pins: 1A GND, 1B GND, 2A 3.3V, 2B 3.3V, 3A SDA, 3B SCK, 4A SCL, 4B SDO, 5B SDI, 6B /CS

## SFM
designator U?
footprint SFM
pins: 1 /CS, 2 SO1, 3 /HOLD, 4 SI1, 6 +3.3V, 7 SCK, 8 SI2, 9 SO2, 10 GND, 11 SI3, 12 SO3, 13 /WP

## SG1548
designator U?
footprint SOL-16
pins: 1 L-TSHD, 2 GND, 3 VREF, 4 +VIN, 5 LINE SENSE, 6 EMT, 7 /LIN-F, 8 DELAY, 9 /O.V.F, 10 /U.V F, 11 SENSE 1, 12 SENSE 2, 14 SENSE 4, 15 INV. IN, 16 INV. OUT

## SG5841S2
designator ?
pins: 1 GND, 2 FB, 3 VIN, 4 R1, 6 SENS, 7 VDD, 8 GATE

## SI530
designator U?
footprint LP6
pins: 1 NC, 2 OE, 3 GND, 4 CLK+, 5 CLK-, 6 VDD

## SI550
designator U?
footprint LP6
pins: 1 VC, 2 OE, 3 GND, 4 CLK+, 5 CLK-, 6 VDD

## SIM
designator J?
footprint SIM-HOLDER-SMD
pins: 1 CLOCK, 2 I/O, 3 RST, 4 VPP, 5 VCC, 6 GND, G

## SIM800C
designator U?
Module: GSM/Bluetooth; GPRS; 2G; 1800MHz, 900MHz; 85.6kbps; SMD; MP: SIM800C; MF: Simcom; Check_prices: https://www.snapeda.com/parts/SIM800C/SIMcom+Wireless+solutions+Co.%252CLtd/view-part/?ref=eda; Value: *; Availability: In Stock; Price: None; Package: None; SnapEDA_Link: https://www.snapeda.com/parts/SIM800C/SIMcom+Wireless+solutions+Co.%252CLtd/view-part/?ref=snap
footprint LCC110P1570X1760X250-42N
pins: 1 UART1_TXD (out), 2 UART1_RXD (in), 3 UART1_RTS (in), 4 UART1_CTS (out), 5 UART1_DCD (out), 6 UART1_DTR (in), 7 UART1_RI (out), 8 GND (power), 9 MICP (in), 10 MICN (in), 11 SPKP (out), 12 SPKN (out), 13 GND (power), 14 SIM_DET (in), 15 SIM_DATA (io), 16 SIM_CLK (out), 17 SIM_RST (out), 18 SIM_VDD (out), 19 GND (power), 20 BT_ANT (io), 21 GND (power), 22 UART2_TXD (out), 23 UART2_RXD (in), 24 USB_VBUS (in), 25 USB_DP (io), 26 USB_DN (io), 27 GND (power), 28 VRTC (power), 29 RF_SYNC (out), 30 GND (power), 31 GND (power), 32 GSM_ANT (io), 33 GND (power), 34 VBAT (power), 35 VBAT (power), 36 GND (power), 37 GND (power), 38 ADC (in), 39 PWRKEY (in), 40 VDD_EXT (power), 41 NETLIGHT (out), 42 STATUS (out)

## SIM900
designator U?
footprint SIM900-68P
pins: 1 PWRKEY, 2 NC, 3 DTR, 4 RI, 5 DCD, 6 NC, 7 CTS, 8 RTS, 9 TXD, 10 RXD, 11 DISP_CLK, 12 DISP_DATA, 13 DISP_D/C, 14 DISP_CS, 15 VDD_EXT, 16 NRESET, 17 GND, 18 GND, 19 MIC_P, 20 MIC_N, 21 SPK_P, 22 SPK_N, 23 LINEIN_R, 24 LINEIN_L, 25 ADC, 26 VRTC, 27 DBG_TXD, 28 DBG_RXD, 29 GND, 30 SIM_VDD, 31 SIM_DATA, 32 SIM_CLK, 33 SIM_RST, 34 SIM_PRESENCE, 35 PWM1, 36 PWM2, 37 SDA, 38 SCL, 39 GND, 40 GPIO1/KBR4, 41 GPIO2/KBR3, 42 GPIO3/KBR2, 43 GPIO4/KBR1, 44 GPIO5/KBR0, 45 GND, 46 GND, 47 GPIO6/KBC4, 48 GPIO7/KBC3, 49 GPIO8/KBC2, 50 GPIO9/KBC1, 51 GPIO10, 52 NETLIGHT, 53 GND, 54 GND, 55 VBAT, 56 VBAT, 57 VBAT, 58 GND, 59 GND, 60 RF_ANT, 61 GND, 62 GND, 63 GND, 64 GND, 65 GND, 66 STATUS, 67 GPIO11, 68 GPIO12

## SIM-HOLDER-TLB-433-JW-3800N
designator SIM?
footprint SIM-HOLDER
pins: 1 SIM-VDD, 2 GND, 3 SIM_RST, 4 VPP, 5 SIM-CLK, 6 SIM-DATA, 7 NC, 8 NC, 9 SW1, 10 SW2, G

## SIM_1
designator J?
footprint SIM-HOLDERV2
pins: 1 CLOCK, 2 I/O, 3 RST, 4 VPP, 5 VCC, 6 GND, 7 R1, 8 R2, 9 CD, G

## SIMCARD
designator *
pins: 1 CCVCC, 2 CCRST, 3 CCCLK, 4 CCGND, 5 CCVPP, 6 CCIO, 7 CD, 8, 9

## SIP
designator R?
pins: 1 COM (in), 2 R1 (in), 3 R2 (in), 4 R3 (in), 5 R4 (in), 6 R5 (in), 7 R6 (in), 8 R7 (in), 9 R8 (in)

## SIP2
designator R?
footprint SIP9
pins: 1 R1 (in), 2 R2 (in), 3 R3 (in), 4 R4 (in), 5 R5 (in), 6 R6 (in), 7 R7 (in), 8 R8 (in), 9 COM (in)

## SIP2-A
designator ?
pins: 1, 2

## SIP3
designator R?
footprint SIP8-0603
pins: 1 R1 (in), 2 R2 (in), 3 R3 (in), 4 R4 (in), 5 R5 (in), 6 R6 (in), 7 R7 (in), 8 R8 (in)

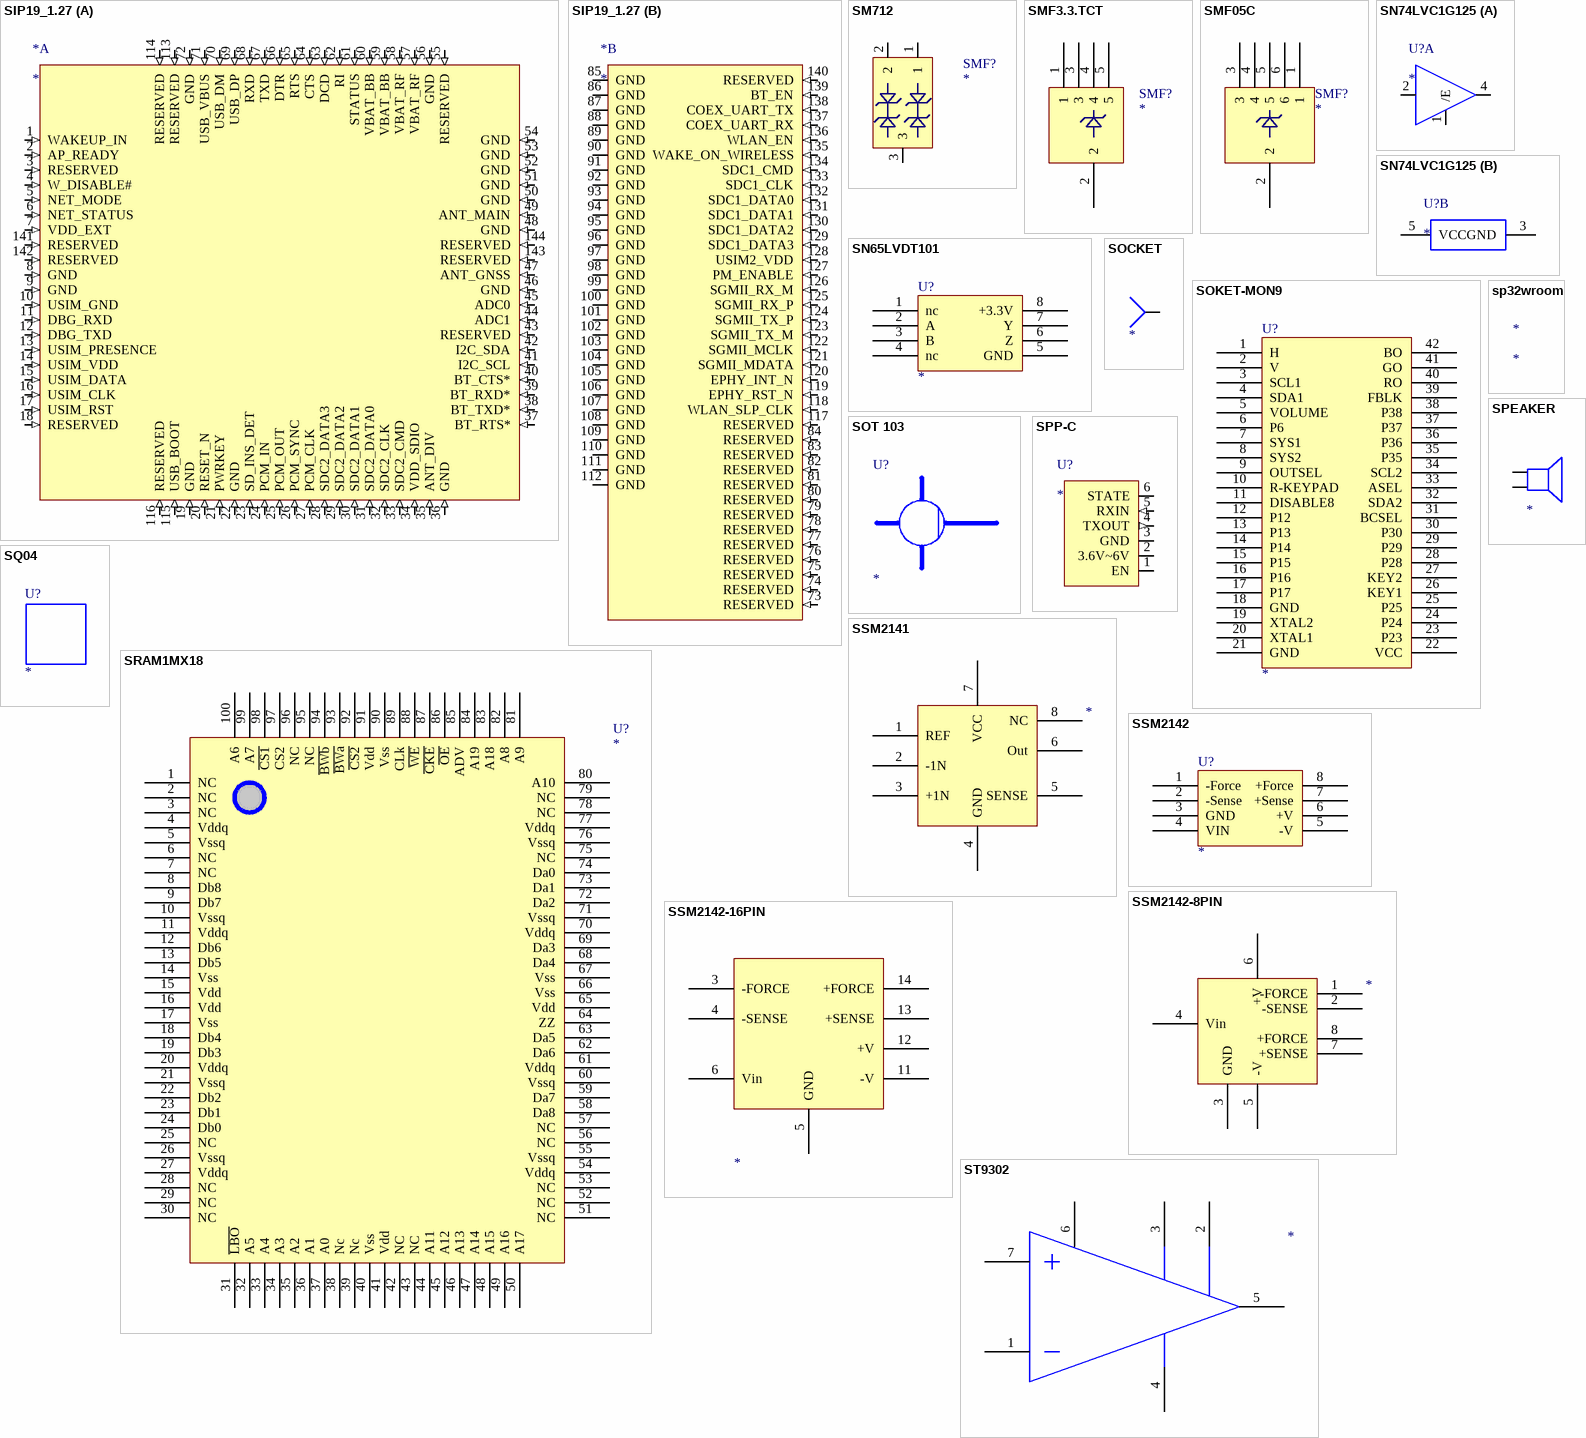
[diagram p57: symbols SIP19_1.27 to ST9302]

## SIP19_1.27
designator *
footprint EC25-E
part A pins: 1 WAKEUP_IN (in), 2 AP_READY (in), 3 RESERVED (in), 4 W_DISABLE# (in), 5 NET_MODE (in), 6 NET_STATUS (in), 7 VDD_EXT (in), 8 GND (in), 9 GND (in), 10 USIM_GND (in), 11 DBG_RXD (in), 12 DBG_TXD (in), 13 USIM_PRESENCE (in), 14 USIM_VDD (in), 15 USIM_DATA (in), 16 USIM_CLK (in), 17 USIM_RST (in), 18 RESERVED (in), 19 GND (in), 20 RESET_N (in), 21 PWRKEY (in), 22 GND (in), 23 SD_INS_DET (in), 24 PCM_IN (in), 25 PCM_OUT (in), 26 PCM_SYNC (in), 27 PCM_CLK (in), 28 SDC2_DATA3 (in), 29 SDC2_DATA2 (in), 30 SDC2_DATA1 (in), 31 SDC2_DATA0 (in), 32 SDC2_CLK (in), 33 SDC2_CMD (in), 34 VDD_SDIO (in), 35 ANT_DIV (in), 36 GND (in), 37 BT_RTS* (in), 38 BT_TXD* (in), 39 BT_RXD* (in), 40 BT_CTS* (in), 41 I2C_SCL (in), 42 I2C_SDA (in), 43 RESERVED (in), 44 ADC1 (in), 45 ADC0 (in), 46 GND (in), 47 ANT_GNSS (in), 48 GND (in), 49 ANT_MAIN (in), 50 GND (in), 51 GND (in), 52 GND (in), 53 GND (in), 54 GND (in), 55 RESERVED (in), 56 GND (in), 57 VBAT_RF (in), 58 VBAT_RF (in), 59 VBAT_BB (in), 60 VBAT_BB (in), 61 STATUS (in), 62 RI (in), 63 DCD (in), 64 CTS (in), 65 RTS (in), 66 DTR (in), 67 TXD (in), 68 RXD (in), 69 USB_DP (in), 70 USB_DM (in), 71 USB_VBUS (in), 72 GND (in), 113 RESERVED (in), 114 RESERVED (in), 115 USB_BOOT (in), 116 RESERVED (in), 141 RESERVED (in), 142 RESERVED (in), 143 RESERVED (in), 144 RESERVED (in)
part B pins: 73 RESERVED (in), 74 RESERVED (in), 75 RESERVED (in), 76 RESERVED (in), 77 RESERVED (in), 78 RESERVED (in), 79 RESERVED (in), 80 RESERVED (in), 81 RESERVED (in), 82 RESERVED (in), 83 RESERVED (in), 84 RESERVED (in), 85 GND (power), 86 GND (power), 87 GND (power), 88 GND (power), 89 GND (power), 90 GND (power), 91 GND (power), 92 GND (power), 93 GND (power), 94 GND (power), 95 GND (power), 96 GND (power), 97 GND (power), 98 GND (power), 99 GND (power), 100 GND (power), 101 GND (power), 102 GND (power), 103 GND (power), 104 GND (power), 105 GND (power), 106 GND (power), 107 GND (power), 108 GND (power), 109 GND (power), 110 GND (power), 111 GND (power), 112 GND (power), 117 RESERVED (in), 118 WLAN_SLP_CLK (in), 119 EPHY_RST_N (in), 120 EPHY_INT_N (in), 121 SGMII_MDATA (in), 122 SGMII_MCLK (in), 123 SGMII_TX_M (in), 124 SGMII_TX_P (in), 125 SGMII_RX_P (in), 126 SGMII_RX_M (in), 127 PM_ENABLE (in), 128 USIM2_VDD (in), 129 SDC1_DATA3 (in), 130 SDC1_DATA2 (in), 131 SDC1_DATA1 (in), 132 SDC1_DATA0 (in), 133 SDC1_CLK (in), 134 SDC1_CMD (in), 135 WAKE_ON_WIRELESS (in), 136 WLAN_EN (in), 137 COEX_UART_RX (in), 138 COEX_UART_TX (in), 139 BT_EN (in), 140 RESERVED (in)

## SM712
designator SMF?
footprint SOT-23
pins: 1, 2, 3

## SMF3.3.TCT
designator SMF?
footprint SC70-5L (Footprint not found)
pins: 1, 2, 3, 4, 5

## SMF05C
designator SMF?
footprint SC70-6L
pins: 1, 2, 3, 4, 5, 6

## SN65LVDT101
designator U?
footprint PSOP8
pins: 1 nc, 2 A, 3 B, 4 nc, 5 GND, 6 Z, 7 Y, 8 +3.3V

## SN74LVC1G125
designator U?
footprint SOT-25
part A pins: 1 /E, 2 I, 4 O
part B pins: 3 GND, 5 VCC

## SOCKET
designator ?
pins: 1

## SOKET-MON9
designator U?
footprint DIL42B
pins: 1 H, 2 V, 3 SCL1, 4 SDA1, 5 VOLUME, 6 P6, 7 SYS1, 8 SYS2, 9 OUTSEL, 10 R-KEYPAD, 11 DISABLE8, 12 P12, 13 P13, 14 P14, 15 P15, 16 P16, 17 P17, 18 GND, 19 XTAL2, 20 XTAL1, 21 GND, 22 VCC, 23 P23, 24 P24, 25 P25, 26 KEY1, 27 KEY2, 28 P28, 29 P29, 30 P30, 31 BCSEL, 32 SDA2, 33 ASEL, 34 SCL2, 35 P35, 36 P36, 37 P37, 38 P38, 39 FBLK, 40 RO, 41 GO, 42 BO

## SOT 103
designator U?

## sp32wroom
designator *

## SPEAKER
designator ?
pins: 1, 2

## SPP-C
designator U?
footprint BLUE (Footprint not found)
pins: 1 EN, 2 3.6V~6V, 3 GND, 4 TXOUT (out), 5 RXIN (in), 6 STATE

## SQ04
designator U?

## SRAM1MX18
designator U?
footprint TQFP-100
pins: 1 NC (power), 2 NC (power), 3 NC (power), 4 Vddq (power), 5 Vssq (power), 6 NC (power), 7 NC (power), 8 Db8 (power), 9 Db7 (power), 10 Vssq (power), 11 Vddq (power), 12 Db6 (power), 13 Db5 (power), 14 Vss (power), 15 Vdd (power), 16 Vdd (power), 17 Vss (power), 18 Db4 (power), 19 Db3 (power), 20 Vddq (power), 21 Vssq (power), 22 Db2 (power), 23 Db1 (power), 24 Db0 (power), 25 NC (power), 26 Vssq (power), 27 Vddq (power), 28 NC (power), 29 NC (power), 30 NC (power), 31 ~{LBO} (power), 32 A5 (power), 33 A4 (power), 34 A3 (power), 35 A2 (power), 36 A1 (power), 37 A0 (power), 38 Nc (power), 39 Nc (power), 40 Vss (power), 41 Vdd (power), 42 NC (power), 43 NC (power), 44 A11 (power), 45 A12 (power), 46 A13 (power), 47 A14 (power), 48 A15 (power), 49 A16 (power), 50 A17 (power), 51 NC (power), 52 NC (power), 53 NC (power), 54 Vddq (power), 55 Vssq (power), 56 NC (power), 57 NC (power), 58 Da8 (power), 59 Da7 (power), 60 Vssq (power), 61 Vddq (power), 62 Da6 (power), 63 Da5 (power), 64 ZZ (power), 65 Vdd (power), 66 Vss (power), 67 Vss (power), 68 Da4 (power), 69 Da3 (power), 70 Vddq (power), 71 Vssq (power), 72 Da2 (power), 73 Da1 (power), 74 Da0 (power), 75 NC (power), 76 Vssq (power), 77 Vddq (power), 78 NC (power), 79 NC (power), 80 A10 (power), 81 A9 (power), 82 A8 (power), 83 A18 (power), 84 A19 (power), 85 ADV (power), 86 ~{OE} (power), 87 ~{CKE} (power), 88 ~{WE} (power), 89 CLk (power), 90 Vss (power), 91 Vdd (power), 92 ~{CS2} (power), 93 ~{BWa} (power), 94 ~{BWb} (power), 95 NC (power), 96 NC (power), 97 CS2 (power), 98 ~{CS1} (power), 99 A7 (power), 100 A6 (power)

## SSM2141
designator ?
U?
footprint DIP8
pins: 1 REF, 2 -1N, 3 +1N, 4 GND (power), 5 SENSE, 6 Out, 7 VCC (power), 8 NC

## SSM2142
designator U?
footprint DIP8
pins: 1 -Force, 2 -Sense, 3 GND, 4 VIN, 5 -V, 6 +V, 7 +Sense, 8 +Force

## SSM2142-8PIN
designator ?
U?
footprint DIP8
pins: 1 -FORCE, 2 -SENSE, 3 GND (power), 4 Vin, 5 -V, 6 +V, 7 +SENSE, 8 +FORCE